# Altium schematic symbol library linear.SCHLIB: 655 symbols (part 3 of 4)
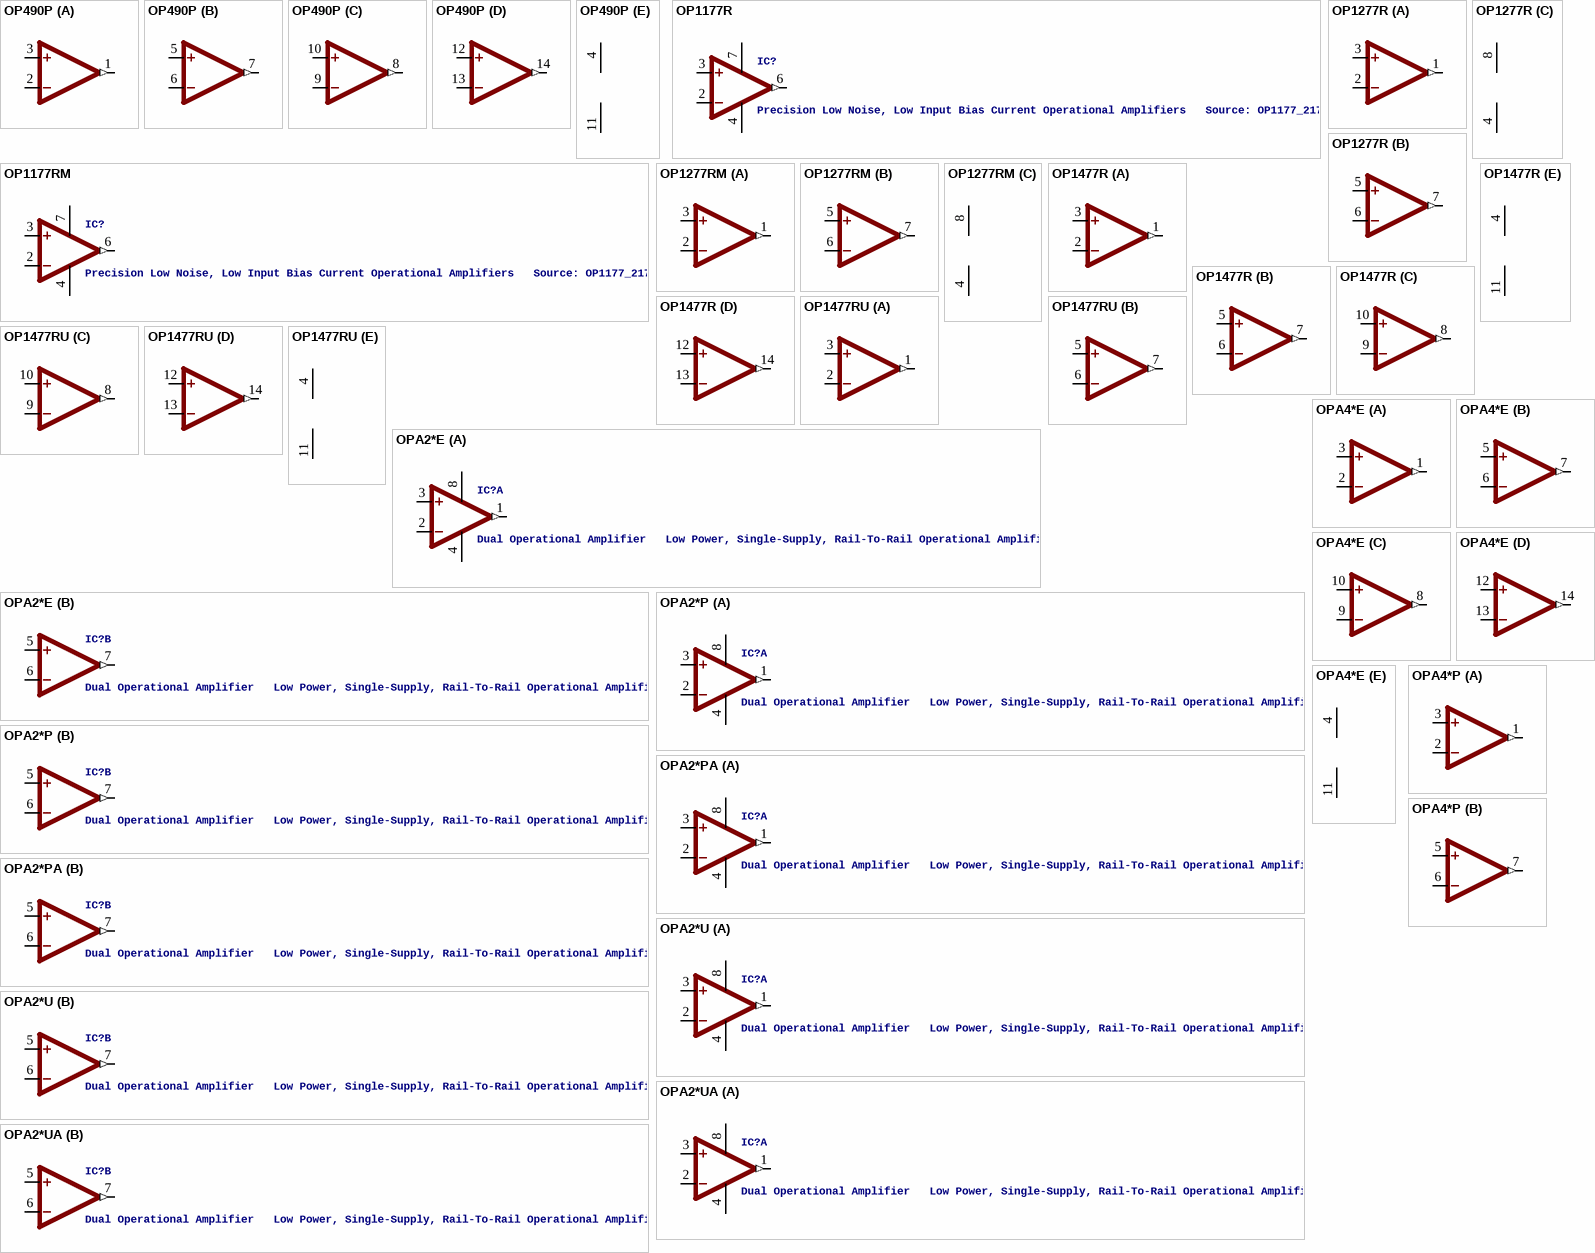
[diagram p40: symbols OP490P to OPA4*P]

## OP1177RM
designator IC?, comment Precision Low Noise, Low Input Bias Current Operational Amplifiers   Source: OP1177_2177_4177.pdf
footprint MSOP08
pins: 2 -IN, 3 +IN, 4 V- (power), 6 OUT (out), 7 V+ (power)

## OP1277R
designator IC?, comment Precision Low Noise, Low Input Bias Current Operational Amplifiers   Source: OP1177_2177_4177.pdf  (value not drawn)
footprint SOIC8
part A pins: 1 OUT (out), 2 -IN, 3 +IN
part B pins: 5 +IN, 6 -IN, 7 OUT (out)
part C pins: 4 V- (power), 8 V+ (power)

## OP1277RM
designator IC?, comment Precision Low Noise, Low Input Bias Current Operational Amplifiers   Source: OP1177_2177_4177.pdf  (value not drawn)
footprint MSOP08
part A pins: 1 OUT (out), 2 -IN, 3 +IN
part B pins: 5 +IN, 6 -IN, 7 OUT (out)
part C pins: 4 V- (power), 8 V+ (power)

## OP1477R
designator IC?, comment Precision Low Noise, Low Input Bias Current Operational Amplifiers   Source: OP1177_2177_4177.pdf  (value not drawn)
footprint SO14
part A pins: 1 OUT (out), 2 -IN, 3 +IN
part B pins: 5 +IN, 6 -IN, 7 OUT (out)
part C pins: 8 OUT (out), 9 -IN, 10 +IN
part D pins: 12 +IN, 13 -IN, 14 OUT (out)
part E pins: 4 V+ (power), 11 V- (power)

## OP1477RU
designator IC?, comment Precision Low Noise, Low Input Bias Current Operational Amplifiers   Source: OP1177_2177_4177.pdf  (value not drawn)
footprint TSSOP14-RU
part A pins: 1 OUT (out), 2 -IN, 3 +IN
part B pins: 5 +IN, 6 -IN, 7 OUT (out)
part C pins: 8 OUT (out), 9 -IN, 10 +IN
part D pins: 12 +IN, 13 -IN, 14 OUT (out)
part E pins: 4 V+ (power), 11 V- (power)

## OPA2*E
designator IC?, comment Dual Operational Amplifier   Low Power, Single-Supply, Rail-To-Rail Operational Amplifier Source: http://focus.ti.com/lit/ds/symlink/opa2345.pdf http://focus.ti.com .. opa241.pdf http://focus.ti.com/lit/ds/symlink/opa2134.pdf
footprint MSOP08
part A pins: 1 OUT (out), 2 -IN, 3 +IN, 4 V- (power), 8 V+ (power)
part B pins: 5 +IN, 6 -IN, 7 OUT (out)

## OPA2*P
designator IC?, comment Dual Operational Amplifier   Low Power, Single-Supply, Rail-To-Rail Operational Amplifier Source: http://focus.ti.com/lit/ds/symlink/opa2345.pdf http://focus.ti.com .. opa241.pdf http://focus.ti.com/lit/ds/symlink/opa2134.pdf
footprint DIL08
part A pins: 1 OUT (out), 2 -IN, 3 +IN, 4 V- (power), 8 V+ (power)
part B pins: 5 +IN, 6 -IN, 7 OUT (out)

## OPA2*PA
designator IC?, comment Dual Operational Amplifier   Low Power, Single-Supply, Rail-To-Rail Operational Amplifier Source: http://focus.ti.com/lit/ds/symlink/opa2345.pdf http://focus.ti.com .. opa241.pdf http://focus.ti.com/lit/ds/symlink/opa2134.pdf
footprint DIL08
part A pins: 1 OUT (out), 2 -IN, 3 +IN, 4 V- (power), 8 V+ (power)
part B pins: 5 +IN, 6 -IN, 7 OUT (out)

## OPA2*U
designator IC?, comment Dual Operational Amplifier   Low Power, Single-Supply, Rail-To-Rail Operational Amplifier Source: http://focus.ti.com/lit/ds/symlink/opa2345.pdf http://focus.ti.com .. opa241.pdf http://focus.ti.com/lit/ds/symlink/opa2134.pdf
footprint SO08
part A pins: 1 OUT (out), 2 -IN, 3 +IN, 4 V- (power), 8 V+ (power)
part B pins: 5 +IN, 6 -IN, 7 OUT (out)

## OPA2*UA
designator IC?, comment Dual Operational Amplifier   Low Power, Single-Supply, Rail-To-Rail Operational Amplifier Source: http://focus.ti.com/lit/ds/symlink/opa2345.pdf http://focus.ti.com .. opa241.pdf http://focus.ti.com/lit/ds/symlink/opa2134.pdf
footprint SO08
part A pins: 1 OUT (out), 2 -IN, 3 +IN, 4 V- (power), 8 V+ (power)
part B pins: 5 +IN, 6 -IN, 7 OUT (out)

## OPA4*E
designator IC?, comment Quad Operational Amplifier   compatible with: TLC27L4   Low Power, Single-Supply, Rail-To-Rail Operational Amplifier Source: http://focus.ti.com/lit/ds/symlink/opa2345.pdf http://focus.ti.com .. opa241.pdf http://focus.ti.com .. tlc27l4.pdf http://focus.ti.com/lit/ds/symlink/opa2134.pdf  (value not drawn)
footprint TSSOP14
part A pins: 1 OUT (out), 2 -IN, 3 +IN
part B pins: 5 +IN, 6 -IN, 7 OUT (out)
part C pins: 8 OUT (out), 9 -IN, 10 +IN
part D pins: 12 +IN, 13 -IN, 14 OUT (out)
part E pins: 4 V+ (power), 11 V- (power)

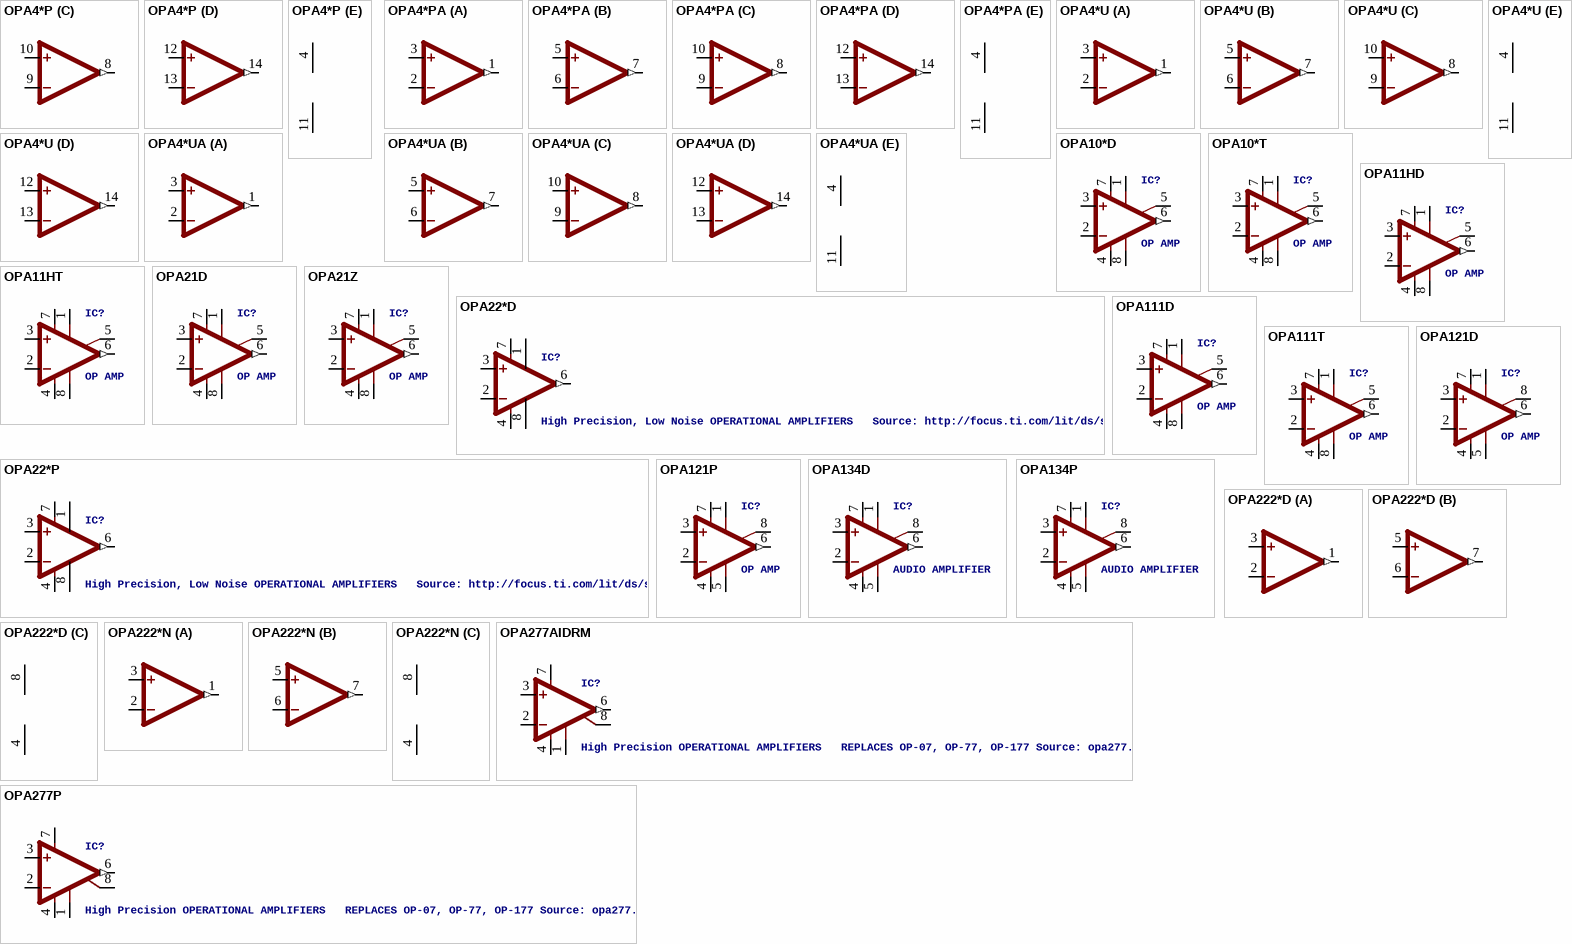
[diagram p27: symbols OPA4*P to OPA277P]

## OPA4*P
designator IC?, comment Quad Operational Amplifier   compatible with: TLC27L4   Low Power, Single-Supply, Rail-To-Rail Operational Amplifier Source: http://focus.ti.com/lit/ds/symlink/opa2345.pdf http://focus.ti.com .. opa241.pdf http://focus.ti.com .. tlc27l4.pdf http://focus.ti.com/lit/ds/symlink/opa2134.pdf  (value not drawn)
footprint DIL14
part A pins: 1 OUT (out), 2 -IN, 3 +IN
part B pins: 5 +IN, 6 -IN, 7 OUT (out)
part C pins: 8 OUT (out), 9 -IN, 10 +IN
part D pins: 12 +IN, 13 -IN, 14 OUT (out)
part E pins: 4 V+ (power), 11 V- (power)

## OPA4*PA
designator IC?, comment Quad Operational Amplifier   compatible with: TLC27L4   Low Power, Single-Supply, Rail-To-Rail Operational Amplifier Source: http://focus.ti.com/lit/ds/symlink/opa2345.pdf http://focus.ti.com .. opa241.pdf http://focus.ti.com .. tlc27l4.pdf http://focus.ti.com/lit/ds/symlink/opa2134.pdf  (value not drawn)
footprint DIL14
part A pins: 1 OUT (out), 2 -IN, 3 +IN
part B pins: 5 +IN, 6 -IN, 7 OUT (out)
part C pins: 8 OUT (out), 9 -IN, 10 +IN
part D pins: 12 +IN, 13 -IN, 14 OUT (out)
part E pins: 4 V+ (power), 11 V- (power)

## OPA4*U
designator IC?, comment Quad Operational Amplifier   compatible with: TLC27L4   Low Power, Single-Supply, Rail-To-Rail Operational Amplifier Source: http://focus.ti.com/lit/ds/symlink/opa2345.pdf http://focus.ti.com .. opa241.pdf http://focus.ti.com .. tlc27l4.pdf http://focus.ti.com/lit/ds/symlink/opa2134.pdf  (value not drawn)
footprint SO14
part A pins: 1 OUT (out), 2 -IN, 3 +IN
part B pins: 5 +IN, 6 -IN, 7 OUT (out)
part C pins: 8 OUT (out), 9 -IN, 10 +IN
part D pins: 12 +IN, 13 -IN, 14 OUT (out)
part E pins: 4 V+ (power), 11 V- (power)

## OPA4*UA
designator IC?, comment Quad Operational Amplifier   compatible with: TLC27L4   Low Power, Single-Supply, Rail-To-Rail Operational Amplifier Source: http://focus.ti.com/lit/ds/symlink/opa2345.pdf http://focus.ti.com .. opa241.pdf http://focus.ti.com .. tlc27l4.pdf http://focus.ti.com/lit/ds/symlink/opa2134.pdf  (value not drawn)
footprint SO14
part A pins: 1 OUT (out), 2 -IN, 3 +IN
part B pins: 5 +IN, 6 -IN, 7 OUT (out)
part C pins: 8 OUT (out), 9 -IN, 10 +IN
part D pins: 12 +IN, 13 -IN, 14 OUT (out)
part E pins: 4 V+ (power), 11 V- (power)

## OPA10*D
designator IC?, comment OP AMP
footprint SO08
pins: 1 ON1, 2 -IN, 3 +IN, 4 V- (power), 5 ON2, 6 OUT (out), 7 V+ (power), 8 OPT

## OPA10*T
designator IC?, comment OP AMP
footprint TO99
pins: 1 ON1, 2 -IN, 3 +IN, 4 V- (power), 5 ON2, 6 OUT (out), 7 V+ (power), 8 OPT

## OPA11HD
designator IC?, comment OP AMP
footprint SO08
pins: 1 ON1, 2 -IN, 3 +IN, 4 V- (power), 5 ON2, 6 OUT (out), 7 V+ (power), 8 OPT

## OPA11HT
designator IC?, comment OP AMP
footprint TO99
pins: 1 ON1, 2 -IN, 3 +IN, 4 V- (power), 5 ON2, 6 OUT (out), 7 V+ (power), 8 OPT

## OPA21D
designator IC?, comment OP AMP
footprint SO08
pins: 1 ON1, 2 -IN, 3 +IN, 4 V- (power), 5 ON2, 6 OUT (out), 7 V+ (power), 8 OPT

## OPA21Z
designator IC?, comment OP AMP
footprint DIL08
pins: 1 ON1, 2 -IN, 3 +IN, 4 V- (power), 5 ON2, 6 OUT (out), 7 V+ (power), 8 OPT

## OPA22*D
designator IC?, comment High Precision, Low Noise OPERATIONAL AMPLIFIERS   Source: http://focus.ti.com/lit/ds/symlink/opa227.pdf
footprint SO08
pins: 1 OFF1, 2 -IN, 3 +IN, 4 V- (power), 6 OUT (out), 7 V+ (power), 8 OFF2

## OPA22*P
designator IC?, comment High Precision, Low Noise OPERATIONAL AMPLIFIERS   Source: http://focus.ti.com/lit/ds/symlink/opa227.pdf
footprint DIL08
pins: 1 OFF1, 2 -IN, 3 +IN, 4 V- (power), 6 OUT (out), 7 V+ (power), 8 OFF2

## OPA111D
designator IC?, comment OP AMP
footprint SO08
pins: 1 ON1, 2 -IN, 3 +IN, 4 V- (power), 5 ON2, 6 OUT (out), 7 V+ (power), 8 OPT

## OPA111T
designator IC?, comment OP AMP
footprint TO99
pins: 1 ON1, 2 -IN, 3 +IN, 4 V- (power), 5 ON2, 6 OUT (out), 7 V+ (power), 8 OPT

## OPA121D
designator IC?, comment OP AMP
footprint SO08
pins: 1 ON1, 2 -IN, 3 +IN, 4 V- (power), 5 OPT, 6 OUT (out), 7 V+ (power), 8 ON2

## OPA121P
designator IC?, comment OP AMP
footprint DIL08
pins: 1 ON1, 2 -IN, 3 +IN, 4 V- (power), 5 OPT, 6 OUT (out), 7 V+ (power), 8 ON2

## OPA134D
designator IC?, comment AUDIO AMPLIFIER
footprint SO08
pins: 1 ON1, 2 -IN, 3 +IN, 4 V- (power), 5 OPT, 6 OUT (out), 7 V+ (power), 8 ON2

## OPA134P
designator IC?, comment AUDIO AMPLIFIER
footprint DIL08
pins: 1 ON1, 2 -IN, 3 +IN, 4 V- (power), 5 OPT, 6 OUT (out), 7 V+ (power), 8 ON2

## OPA222*D
designator IC?, comment High Precision, Low Noise OPERATIONAL AMPLIFIERS   Source: http://focus.ti.com/lit/ds/symlink/opa227.pdf  (value not drawn)
footprint SO08
part A pins: 1 OUT (out), 2 -IN, 3 +IN
part B pins: 5 +IN, 6 -IN, 7 OUT (out)
part C pins: 4 V- (power), 8 V+ (power)

## OPA222*N
designator IC?, comment High Precision, Low Noise OPERATIONAL AMPLIFIERS   Source: http://focus.ti.com/lit/ds/symlink/opa227.pdf  (value not drawn)
footprint DIL08
part A pins: 1 OUT (out), 2 -IN, 3 +IN
part B pins: 5 +IN, 6 -IN, 7 OUT (out)
part C pins: 4 V- (power), 8 V+ (power)

## OPA277AIDRM
designator IC?, comment High Precision OPERATIONAL AMPLIFIERS   REPLACES OP-07, OP-77, OP-177 Source: opa277.pdf
footprint DFN8-4X4
pins: 1 CMP1, 2 -IN, 3 +IN, 4 V- (power), 6 OUT (out), 7 V+ (power), 8 CMP2

## OPA277P
designator IC?, comment High Precision OPERATIONAL AMPLIFIERS   REPLACES OP-07, OP-77, OP-177 Source: opa277.pdf
footprint DIL08
pins: 1 CMP1, 2 -IN, 3 +IN, 4 V- (power), 6 OUT (out), 7 V+ (power), 8 CMP2

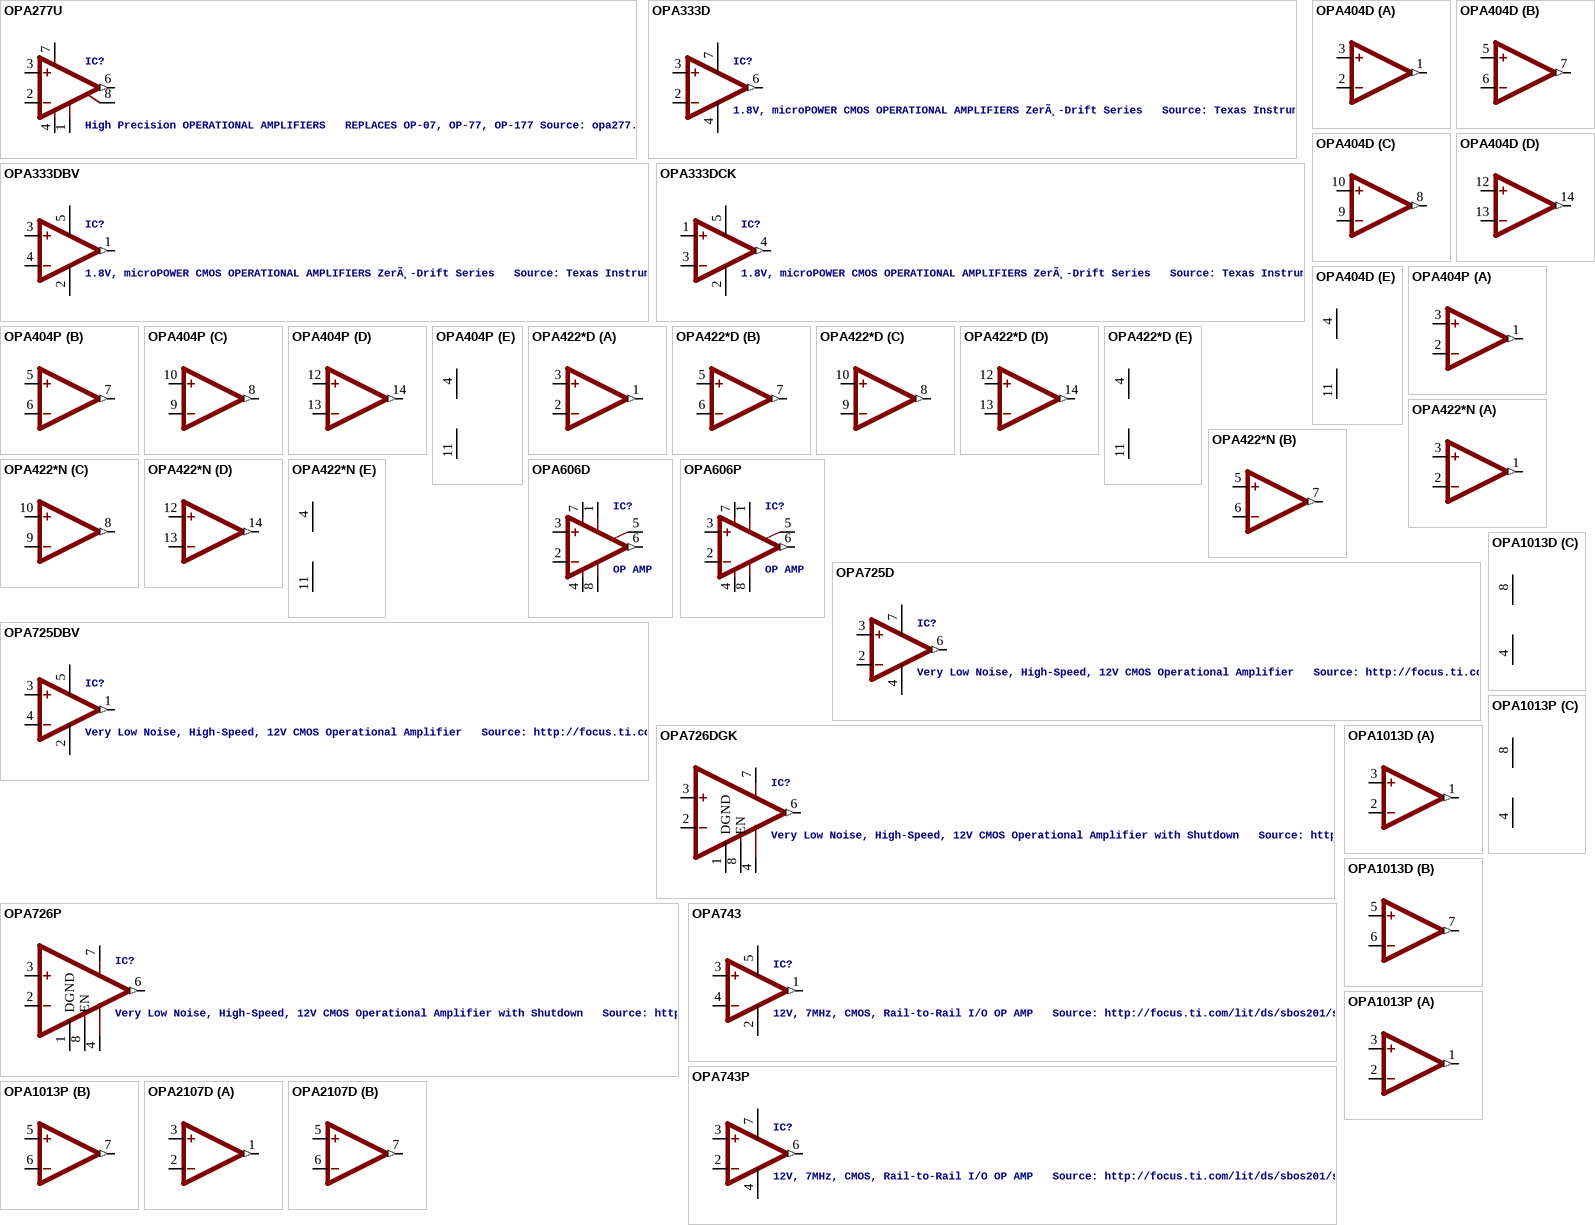
[diagram p28: symbols OPA277U to OPA2107D]

## OPA277U
designator IC?, comment High Precision OPERATIONAL AMPLIFIERS   REPLACES OP-07, OP-77, OP-177 Source: opa277.pdf
footprint SO08
pins: 1 CMP1, 2 -IN, 3 +IN, 4 V- (power), 6 OUT (out), 7 V+ (power), 8 CMP2

## OPA333D
designator IC?, comment 1.8V, microPOWER CMOS OPERATIONAL AMPLIFIERS ZerÃ¸-Drift Series   Source: Texas Instruments (Burr-Brown) .. U11 opa333 Operational Amp.pdf
footprint SO08
pins: 2 -IN, 3 +IN, 4 V- (power), 6 OUT (out), 7 V+ (power)

## OPA333DBV
designator IC?, comment 1.8V, microPOWER CMOS OPERATIONAL AMPLIFIERS ZerÃ¸-Drift Series   Source: Texas Instruments (Burr-Brown) .. U11 opa333 Operational Amp.pdf
footprint SOT23-5
pins: 1 OUT (out), 2 V- (power), 3 +IN, 4 -IN, 5 V+ (power)

## OPA333DCK
designator IC?, comment 1.8V, microPOWER CMOS OPERATIONAL AMPLIFIERS ZerÃ¸-Drift Series   Source: Texas Instruments (Burr-Brown) .. U11 opa333 Operational Amp.pdf
footprint SC70-5L
pins: 1 +IN, 2 V- (power), 3 -IN, 4 OUT (out), 5 V+ (power)

## OPA404D
designator IC?, comment OP AMP  (value not drawn)
footprint SO14
part A pins: 1 OUT (out), 2 -IN, 3 +IN
part B pins: 5 +IN, 6 -IN, 7 OUT (out)
part C pins: 8 OUT (out), 9 -IN, 10 +IN
part D pins: 12 +IN, 13 -IN, 14 OUT (out)
part E pins: 4 V+ (power), 11 V- (power)

## OPA404P
designator IC?, comment OP AMP  (value not drawn)
footprint DIL14
part A pins: 1 OUT (out), 2 -IN, 3 +IN
part B pins: 5 +IN, 6 -IN, 7 OUT (out)
part C pins: 8 OUT (out), 9 -IN, 10 +IN
part D pins: 12 +IN, 13 -IN, 14 OUT (out)
part E pins: 4 V+ (power), 11 V- (power)

## OPA422*D
designator IC?, comment High Precision, Low Noise OPERATIONAL AMPLIFIERS   Source: http://focus.ti.com/lit/ds/symlink/opa227.pdf  (value not drawn)
footprint SO14
part A pins: 1 OUT (out), 2 -IN, 3 +IN
part B pins: 5 +IN, 6 -IN, 7 OUT (out)
part C pins: 8 OUT (out), 9 -IN, 10 +IN
part D pins: 12 +IN, 13 -IN, 14 OUT (out)
part E pins: 4 V+ (power), 11 V- (power)

## OPA422*N
designator IC?, comment High Precision, Low Noise OPERATIONAL AMPLIFIERS   Source: http://focus.ti.com/lit/ds/symlink/opa227.pdf  (value not drawn)
footprint DIL14
part A pins: 1 OUT (out), 2 -IN, 3 +IN
part B pins: 5 +IN, 6 -IN, 7 OUT (out)
part C pins: 8 OUT (out), 9 -IN, 10 +IN
part D pins: 12 +IN, 13 -IN, 14 OUT (out)
part E pins: 4 V+ (power), 11 V- (power)

## OPA606D
designator IC?, comment OP AMP
footprint SO08
pins: 1 ON1, 2 -IN, 3 +IN, 4 V- (power), 5 ON2, 6 OUT (out), 7 V+ (power), 8 OPT

## OPA606P
designator IC?, comment OP AMP
footprint DIL08
pins: 1 ON1, 2 -IN, 3 +IN, 4 V- (power), 5 ON2, 6 OUT (out), 7 V+ (power), 8 OPT

## OPA725D
designator IC?, comment Very Low Noise, High-Speed, 12V CMOS Operational Amplifier   Source: http://focus.ti.com/lit/ds/symlink/opa725.pdf
footprint SO08
pins: 2 -IN, 3 +IN, 4 V- (power), 6 OUT (out), 7 V+ (power)

## OPA725DBV
designator IC?, comment Very Low Noise, High-Speed, 12V CMOS Operational Amplifier   Source: http://focus.ti.com/lit/ds/symlink/opa725.pdf
footprint SOT23-5
pins: 1 OUT (out), 2 V- (power), 3 +IN, 4 -IN, 5 V+ (power)

## OPA726DGK
designator IC?, comment Very Low Noise, High-Speed, 12V CMOS Operational Amplifier with Shutdown   Source: http://focus.ti.com/lit/ds/symlink/opa725.pdf
footprint MSOP08
pins: 1 DGND, 2 -IN, 3 +IN, 4 V- (power), 6 OUT (out), 7 V+ (power), 8 EN

## OPA726P
designator IC?, comment Very Low Noise, High-Speed, 12V CMOS Operational Amplifier with Shutdown   Source: http://focus.ti.com/lit/ds/symlink/opa725.pdf
footprint DIL08
pins: 1 DGND, 2 -IN, 3 +IN, 4 V- (power), 6 OUT (out), 7 V+ (power), 8 EN

## OPA743
designator IC?, comment 12V, 7MHz, CMOS, Rail-to-Rail I/O OP AMP   Source: http://focus.ti.com/lit/ds/sbos201/sbos201.pdf
footprint SOT23-5
pins: 1 OUT (out), 2 V- (power), 3 +IN, 4 -IN, 5 V+ (power)

## OPA743P
designator IC?, comment 12V, 7MHz, CMOS, Rail-to-Rail I/O OP AMP   Source: http://focus.ti.com/lit/ds/sbos201/sbos201.pdf
footprint DIL08
pins: 2 -IN, 3 +IN, 4 V- (power), 6 OUT (out), 7 V+ (power)

## OPA1013D
designator IC?, comment OP AMP  (value not drawn)
footprint SO08
part A pins: 1 OUT (out), 2 -IN, 3 +IN
part B pins: 5 +IN, 6 -IN, 7 OUT (out)
part C pins: 4 V- (power), 8 V+ (power)

## OPA1013P
designator IC?, comment OP AMP  (value not drawn)
footprint DIL08
part A pins: 1 OUT (out), 2 -IN, 3 +IN
part B pins: 5 +IN, 6 -IN, 7 OUT (out)
part C pins: 4 V- (power), 8 V+ (power)

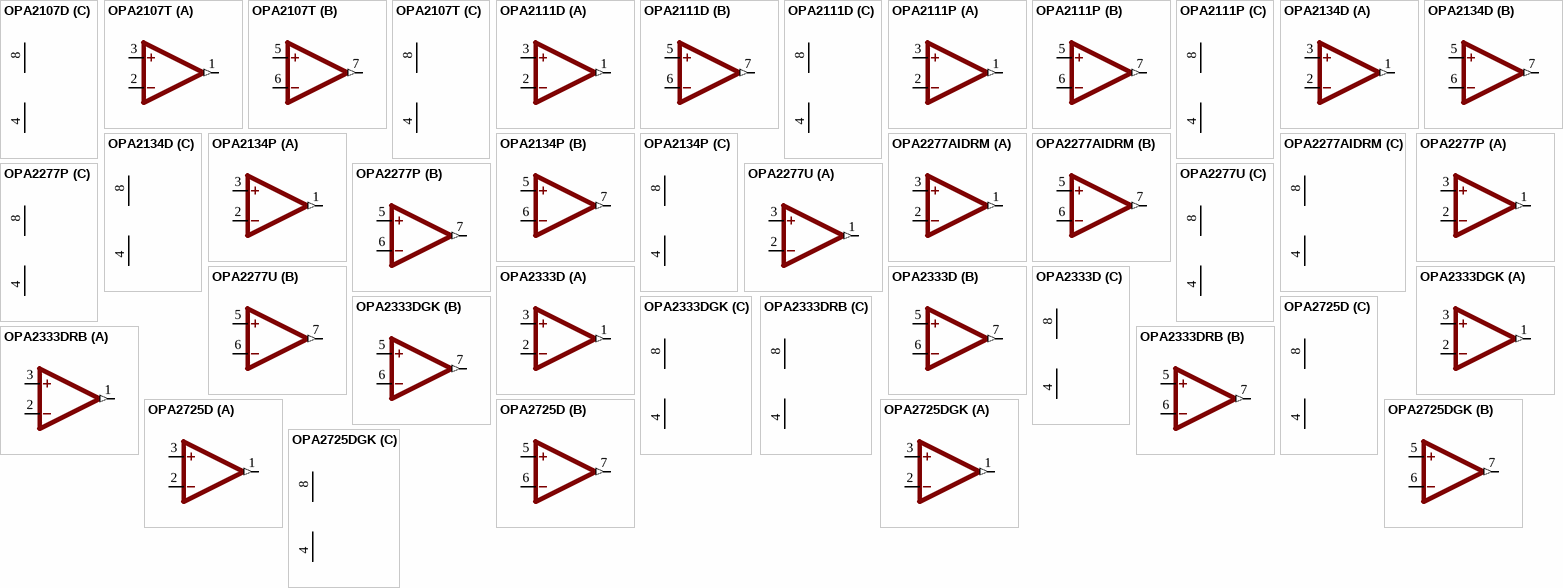
[diagram p29: symbols OPA2107D to OPA2725DGK]

## OPA2107D
designator IC?, comment OP AMP  (value not drawn)
footprint SO08
part A pins: 1 OUT (out), 2 -IN, 3 +IN
part B pins: 5 +IN, 6 -IN, 7 OUT (out)
part C pins: 4 V- (power), 8 V+ (power)

## OPA2107T
designator IC?, comment OP AMP  (value not drawn)
footprint TO99
part A pins: 1 OUT (out), 2 -IN, 3 +IN
part B pins: 5 +IN, 6 -IN, 7 OUT (out)
part C pins: 4 V- (power), 8 V+ (power)

## OPA2111D
designator IC?, comment OP AMP  (value not drawn)
footprint SO08
part A pins: 1 OUT (out), 2 -IN, 3 +IN
part B pins: 5 +IN, 6 -IN, 7 OUT (out)
part C pins: 4 V- (power), 8 V+ (power)

## OPA2111P
designator IC?, comment OP AMP  (value not drawn)
footprint DIL08
part A pins: 1 OUT (out), 2 -IN, 3 +IN
part B pins: 5 +IN, 6 -IN, 7 OUT (out)
part C pins: 4 V- (power), 8 V+ (power)

## OPA2134D
designator IC?, comment SoundPLUS (TM) High Performance AUDIO OPERATIONAL AMPLIFIERS   Source: http://focus.ti.com/lit/ds/sbos058/sbos058.pdf  (value not drawn)
footprint SOIC8
part A pins: 1 OUT (out), 2 -IN, 3 +IN
part B pins: 5 +IN, 6 -IN, 7 OUT (out)
part C pins: 4 V- (power), 8 V+ (power)

## OPA2134P
designator IC?, comment SoundPLUS (TM) High Performance AUDIO OPERATIONAL AMPLIFIERS   Source: http://focus.ti.com/lit/ds/sbos058/sbos058.pdf  (value not drawn)
footprint DIL08
part A pins: 1 OUT (out), 2 -IN, 3 +IN
part B pins: 5 +IN, 6 -IN, 7 OUT (out)
part C pins: 4 V- (power), 8 V+ (power)

## OPA2277AIDRM
designator IC?, comment High Precision OPERATIONAL AMPLIFIERS   REPLACES OP-07, OP-77, OP-177 Source: opa277.pdf  (value not drawn)
footprint DFN8-4X4
part A pins: 1 OUT (out), 2 -IN, 3 +IN
part B pins: 5 +IN, 6 -IN, 7 OUT (out)
part C pins: 4 V- (power), 8 V+ (power)

## OPA2277P
designator IC?, comment High Precision OPERATIONAL AMPLIFIERS   REPLACES OP-07, OP-77, OP-177 Source: opa277.pdf  (value not drawn)
footprint DIL08
part A pins: 1 OUT (out), 2 -IN, 3 +IN
part B pins: 5 +IN, 6 -IN, 7 OUT (out)
part C pins: 4 V- (power), 8 V+ (power)

## OPA2277U
designator IC?, comment High Precision OPERATIONAL AMPLIFIERS   REPLACES OP-07, OP-77, OP-177 Source: opa277.pdf  (value not drawn)
footprint SO08
part A pins: 1 OUT (out), 2 -IN, 3 +IN
part B pins: 5 +IN, 6 -IN, 7 OUT (out)
part C pins: 4 V- (power), 8 V+ (power)

## OPA2333D
designator IC?, comment DUAL 1.8V, microPOWER CMOS OPERATIONAL AMPLIFIERS ZerÃ¸-Drift Series   Source: Texas Instruments (Burr-Brown) .. U11 opa333 Operational Amp.pdf  (value not drawn)
footprint SO08
part A pins: 1 OUT (out), 2 -IN, 3 +IN
part B pins: 5 +IN, 6 -IN, 7 OUT (out)
part C pins: 4 V- (power), 8 V+ (power)

## OPA2333DGK
designator IC?, comment DUAL 1.8V, microPOWER CMOS OPERATIONAL AMPLIFIERS ZerÃ¸-Drift Series   Source: Texas Instruments (Burr-Brown) .. U11 opa333 Operational Amp.pdf  (value not drawn)
footprint MSOP08
part A pins: 1 OUT (out), 2 -IN, 3 +IN
part B pins: 5 +IN, 6 -IN, 7 OUT (out)
part C pins: 4 V- (power), 8 V+ (power)

## OPA2333DRB
designator IC?, comment DUAL 1.8V, microPOWER CMOS OPERATIONAL AMPLIFIERS ZerÃ¸-Drift Series   Source: Texas Instruments (Burr-Brown) .. U11 opa333 Operational Amp.pdf  (value not drawn)
footprint DFN8-4X4
part A pins: 1 OUT (out), 2 -IN, 3 +IN
part B pins: 5 +IN, 6 -IN, 7 OUT (out)
part C pins: 4 V- (power), 8 V+ (power)

## OPA2725D
designator IC?, comment Very Low Noise, High-Speed, 12V CMOS Operational Amplifier   Source: http://focus.ti.com/lit/ds/symlink/opa725.pdf  (value not drawn)
footprint SO08
part A pins: 1 OUT (out), 2 -IN, 3 +IN
part B pins: 5 +IN, 6 -IN, 7 OUT (out)
part C pins: 4 V- (power), 8 V+ (power)

## OPA2725DGK
designator IC?, comment Very Low Noise, High-Speed, 12V CMOS Operational Amplifier   Source: http://focus.ti.com/lit/ds/symlink/opa725.pdf  (value not drawn)
footprint MSOP08
part A pins: 1 OUT (out), 2 -IN, 3 +IN
part B pins: 5 +IN, 6 -IN, 7 OUT (out)
part C pins: 4 V- (power), 8 V+ (power)

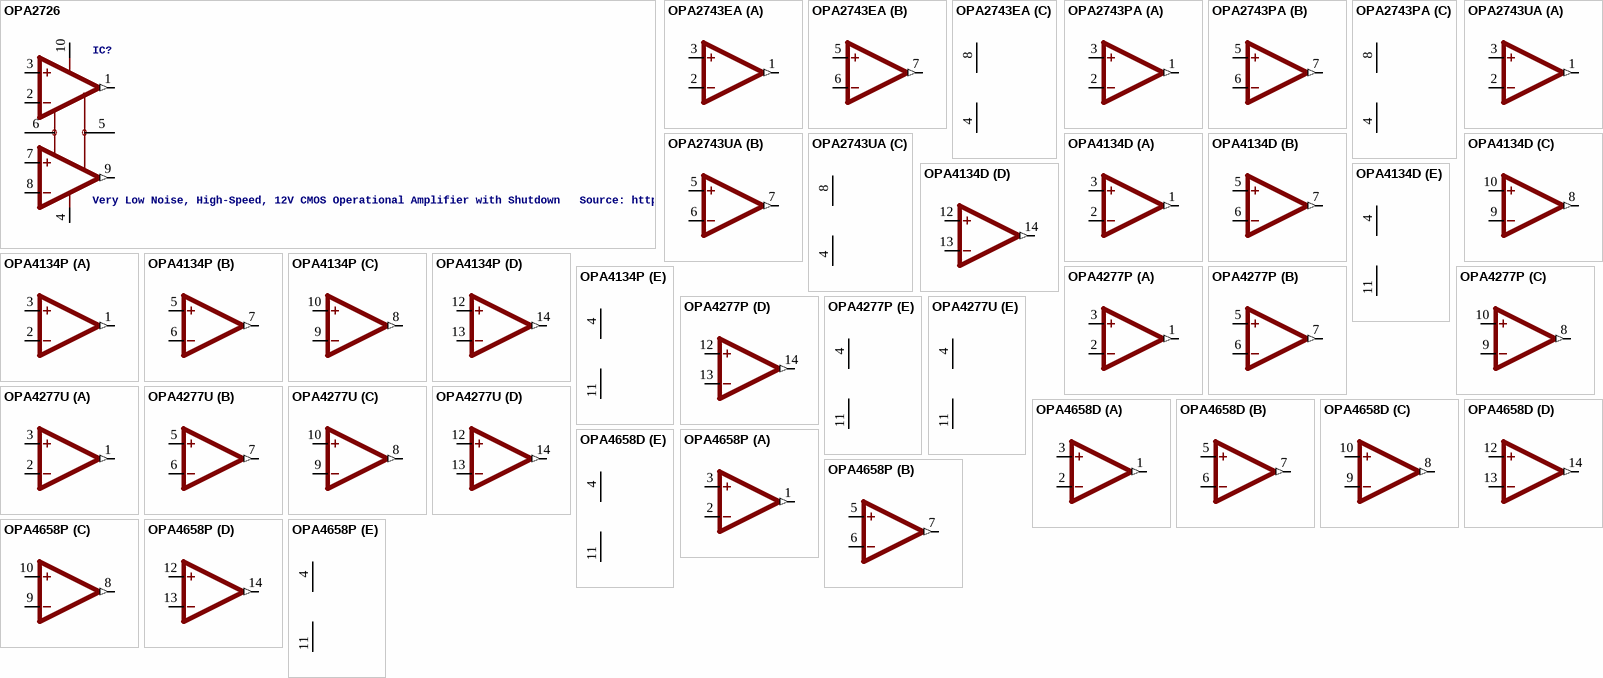
[diagram p30: symbols OPA2726 to OPA4658P]

## OPA2726
designator IC?, comment Very Low Noise, High-Speed, 12V CMOS Operational Amplifier with Shutdown   Source: http://focus.ti.com/lit/ds/symlink/opa725.pdf
footprint MSOP10
pins: 1 OUTA (out), 2 -INA, 3 +INA, 4 V- (power), 5 DGND, 6 EN, 7 +INB, 8 -INB, 9 OUTB (out), 10 V+ (power)

## OPA2743EA
designator IC?, comment 12V, 7MHz, CMOS, Rail-to-Rail I/O Dual OP AMP   Source: http://focus.ti.com/lit/ds/sbos201/sbos201.pdf  (value not drawn)
footprint MSOP08
part A pins: 1 OUT (out), 2 -IN, 3 +IN
part B pins: 5 +IN, 6 -IN, 7 OUT (out)
part C pins: 4 V- (power), 8 V+ (power)

## OPA2743PA
designator IC?, comment 12V, 7MHz, CMOS, Rail-to-Rail I/O Dual OP AMP   Source: http://focus.ti.com/lit/ds/sbos201/sbos201.pdf  (value not drawn)
footprint DIL08
part A pins: 1 OUT (out), 2 -IN, 3 +IN
part B pins: 5 +IN, 6 -IN, 7 OUT (out)
part C pins: 4 V- (power), 8 V+ (power)

## OPA2743UA
designator IC?, comment 12V, 7MHz, CMOS, Rail-to-Rail I/O Dual OP AMP   Source: http://focus.ti.com/lit/ds/sbos201/sbos201.pdf  (value not drawn)
footprint SOIC8
part A pins: 1 OUT (out), 2 -IN, 3 +IN
part B pins: 5 +IN, 6 -IN, 7 OUT (out)
part C pins: 4 V- (power), 8 V+ (power)

## OPA4134D
designator IC?, comment SoundPLUS (TM) High Performance AUDIO OPERATIONAL AMPLIFIERS   Source: http://focus.ti.com/lit/ds/sbos058/sbos058.pdf  (value not drawn)
footprint SO14
part A pins: 1 OUT (out), 2 -IN, 3 +IN
part B pins: 5 +IN, 6 -IN, 7 OUT (out)
part C pins: 8 OUT (out), 9 -IN, 10 +IN
part D pins: 12 +IN, 13 -IN, 14 OUT (out)
part E pins: 4 V+ (power), 11 V- (power)

## OPA4134P
designator IC?, comment SoundPLUS (TM) High Performance AUDIO OPERATIONAL AMPLIFIERS   Source: http://focus.ti.com/lit/ds/sbos058/sbos058.pdf  (value not drawn)
footprint DIL14
part A pins: 1 OUT (out), 2 -IN, 3 +IN
part B pins: 5 +IN, 6 -IN, 7 OUT (out)
part C pins: 8 OUT (out), 9 -IN, 10 +IN
part D pins: 12 +IN, 13 -IN, 14 OUT (out)
part E pins: 4 V+ (power), 11 V- (power)

## OPA4277P
designator IC?, comment High Precision OPERATIONAL AMPLIFIERS   REPLACES OP-07, OP-77, OP-177 Source: opa277.pdf  (value not drawn)
footprint DIL14
part A pins: 1 OUT (out), 2 -IN, 3 +IN
part B pins: 5 +IN, 6 -IN, 7 OUT (out)
part C pins: 8 OUT (out), 9 -IN, 10 +IN
part D pins: 12 +IN, 13 -IN, 14 OUT (out)
part E pins: 4 V+ (power), 11 V- (power)

## OPA4277U
designator IC?, comment High Precision OPERATIONAL AMPLIFIERS   REPLACES OP-07, OP-77, OP-177 Source: opa277.pdf  (value not drawn)
footprint SO14
part A pins: 1 OUT (out), 2 -IN, 3 +IN
part B pins: 5 +IN, 6 -IN, 7 OUT (out)
part C pins: 8 OUT (out), 9 -IN, 10 +IN
part D pins: 12 +IN, 13 -IN, 14 OUT (out)
part E pins: 4 V+ (power), 11 V- (power)

## OPA4658D
designator IC?, comment Quad Wideband, Low Power Current Feedback OP AMP  (value not drawn)
footprint SO14
part A pins: 1 OUT (out), 2 -IN, 3 +IN
part B pins: 5 +IN, 6 -IN, 7 OUT (out)
part C pins: 8 OUT (out), 9 -IN, 10 +IN
part D pins: 12 +IN, 13 -IN, 14 OUT (out)
part E pins: 4 V+ (power), 11 V- (power)

## OPA4658P
designator IC?, comment Quad Wideband, Low Power Current Feedback OP AMP  (value not drawn)
footprint DIL14
part A pins: 1 OUT (out), 2 -IN, 3 +IN
part B pins: 5 +IN, 6 -IN, 7 OUT (out)
part C pins: 8 OUT (out), 9 -IN, 10 +IN
part D pins: 12 +IN, 13 -IN, 14 OUT (out)
part E pins: 4 V+ (power), 11 V- (power)

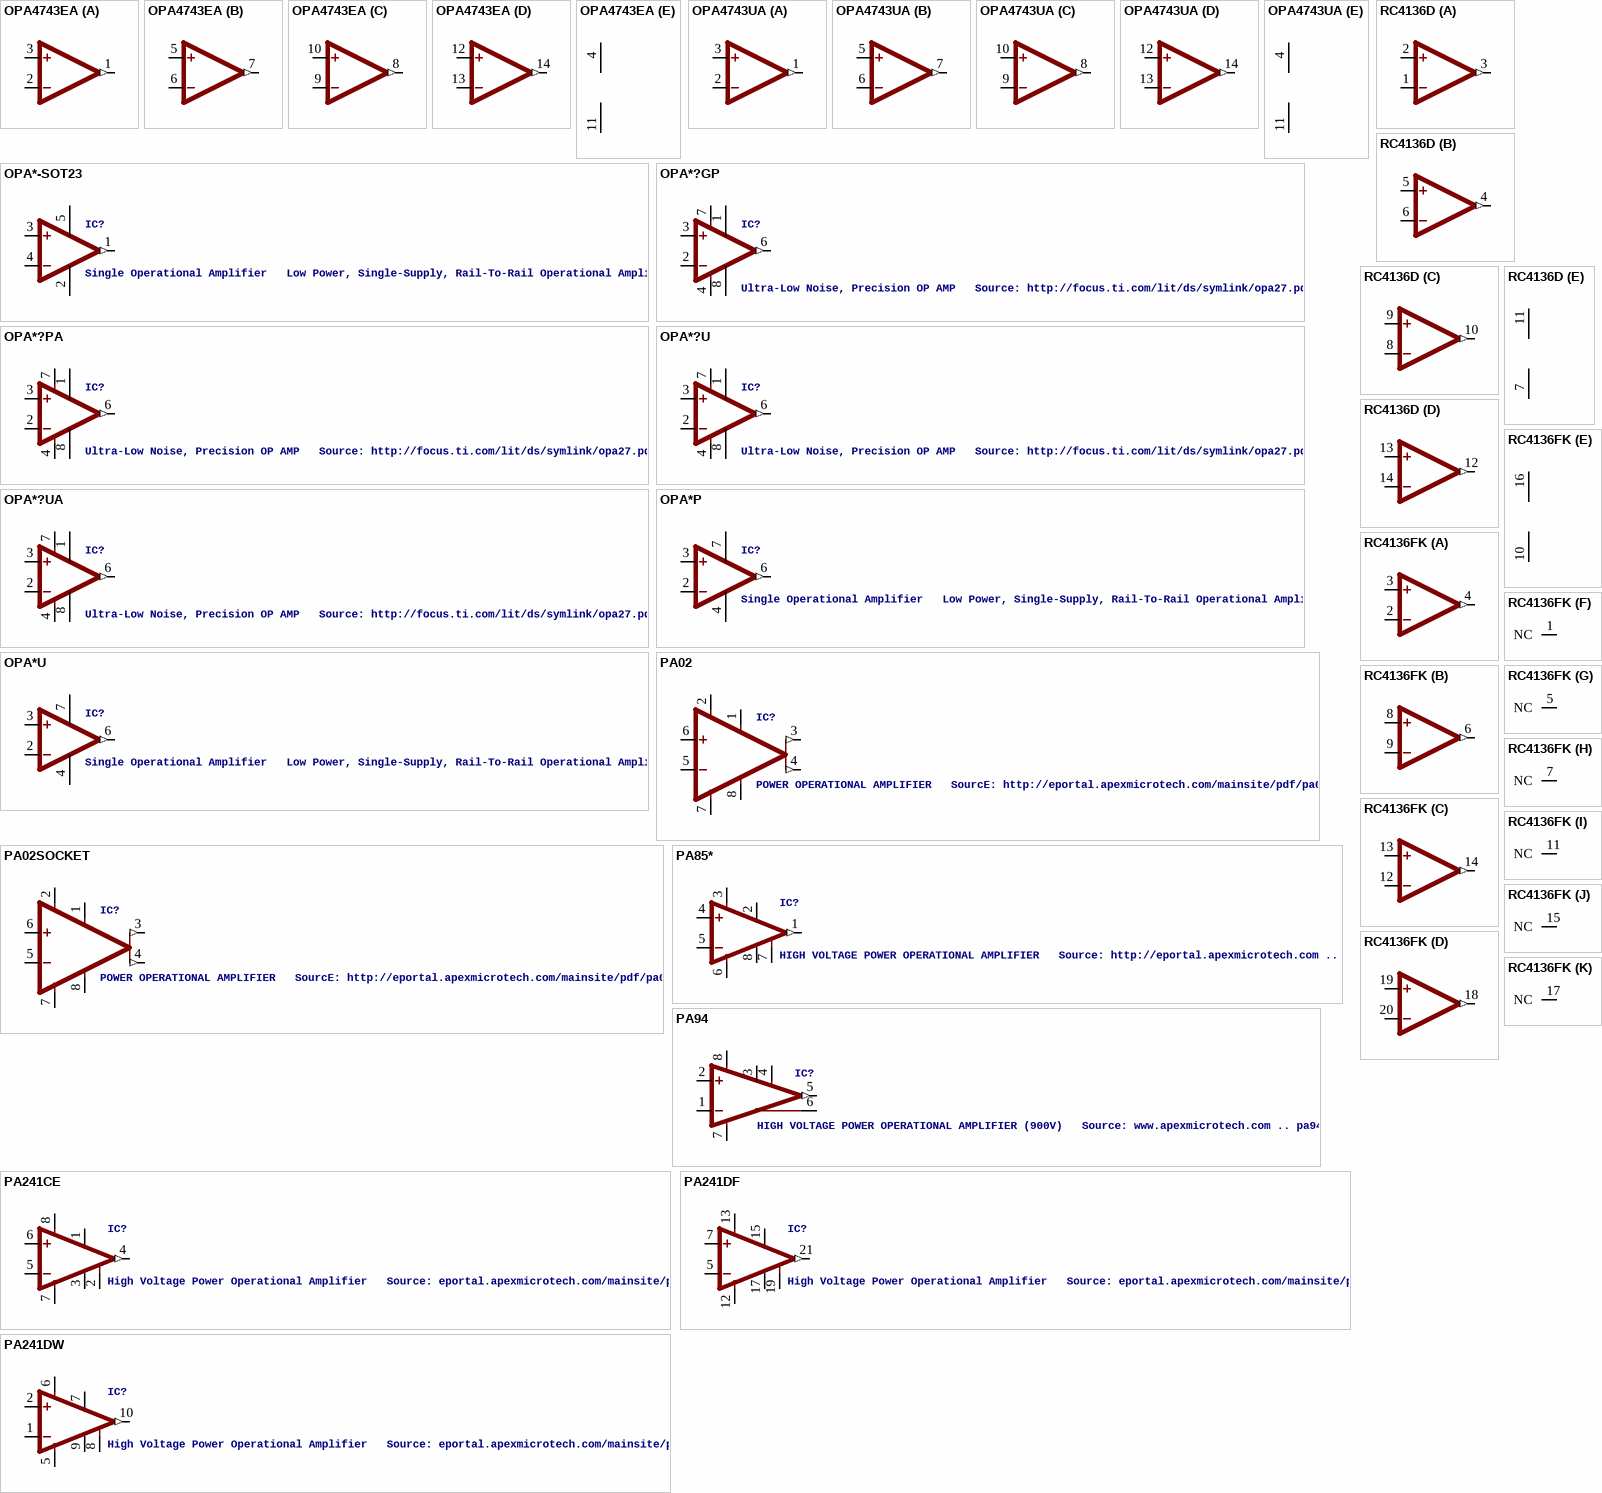
[diagram p31: symbols OPA4743EA to RC4136FK]

## OPA4743EA
designator IC?, comment 12V, 7MHz, CMOS, Rail-to-Rail I/O Quad OP AMP   Source: http://focus.ti.com/lit/ds/sbos201/sbos201.pdf  (value not drawn)
footprint TSSOP14
part A pins: 1 OUT (out), 2 -IN, 3 +IN
part B pins: 5 +IN, 6 -IN, 7 OUT (out)
part C pins: 8 OUT (out), 9 -IN, 10 +IN
part D pins: 12 +IN, 13 -IN, 14 OUT (out)
part E pins: 4 V+ (power), 11 V- (power)

## OPA4743UA
designator IC?, comment 12V, 7MHz, CMOS, Rail-to-Rail I/O Quad OP AMP   Source: http://focus.ti.com/lit/ds/sbos201/sbos201.pdf  (value not drawn)
footprint SO14
part A pins: 1 OUT (out), 2 -IN, 3 +IN
part B pins: 5 +IN, 6 -IN, 7 OUT (out)
part C pins: 8 OUT (out), 9 -IN, 10 +IN
part D pins: 12 +IN, 13 -IN, 14 OUT (out)
part E pins: 4 V+ (power), 11 V- (power)

## OPA*-SOT23
designator IC?, comment Single Operational Amplifier   Low Power, Single-Supply, Rail-To-Rail Operational Amplifier Source: http://focus.ti.com/lit/ds/symlink/opa2345.pdf
footprint SOT23-5
pins: 1 OUT (out), 2 V- (power), 3 +IN, 4 -IN, 5 V+ (power)

## OPA*?GP
designator IC?, comment Ultra-Low Noise, Precision OP AMP   Source: http://focus.ti.com/lit/ds/symlink/opa27.pdf http://focus.ti.com .. opa241.pdf
footprint DIL08
pins: 1 OFF1, 2 -IN, 3 +IN, 4 V- (power), 6 OUT (out), 7 V+ (power), 8 OFF2

## OPA*?PA
designator IC?, comment Ultra-Low Noise, Precision OP AMP   Source: http://focus.ti.com/lit/ds/symlink/opa27.pdf http://focus.ti.com .. opa241.pdf
footprint DIL08
pins: 1 OFF1, 2 -IN, 3 +IN, 4 V- (power), 6 OUT (out), 7 V+ (power), 8 OFF2

## OPA*?U
designator IC?, comment Ultra-Low Noise, Precision OP AMP   Source: http://focus.ti.com/lit/ds/symlink/opa27.pdf http://focus.ti.com .. opa241.pdf
footprint SO08
pins: 1 OFF1, 2 -IN, 3 +IN, 4 V- (power), 6 OUT (out), 7 V+ (power), 8 OFF2

## OPA*?UA
designator IC?, comment Ultra-Low Noise, Precision OP AMP   Source: http://focus.ti.com/lit/ds/symlink/opa27.pdf http://focus.ti.com .. opa241.pdf
footprint SO08
pins: 1 OFF1, 2 -IN, 3 +IN, 4 V- (power), 6 OUT (out), 7 V+ (power), 8 OFF2

## OPA*P
designator IC?, comment Single Operational Amplifier   Low Power, Single-Supply, Rail-To-Rail Operational Amplifier Source: http://focus.ti.com/lit/ds/symlink/opa2345.pdf
footprint DIL08
pins: 2 -IN, 3 +IN, 4 V- (power), 6 OUT (out), 7 V+ (power)

## OPA*U
designator IC?, comment Single Operational Amplifier   Low Power, Single-Supply, Rail-To-Rail Operational Amplifier Source: http://focus.ti.com/lit/ds/symlink/opa2345.pdf
footprint SO08
pins: 2 -IN, 3 +IN, 4 V- (power), 6 OUT (out), 7 V+ (power)

## PA02
designator IC?, comment POWER OPERATIONAL AMPLIFIER   SourcE: http://eportal.apexmicrotech.com/mainsite/pdf/pa02u.pdf
footprint TO3-8
pins: 1 RCL+, 2 V+ (power), 3 OUT@1 (out), 4 OUT@2 (out), 5 -IN, 6 +IN, 7 V- (power), 8 RCL-

## PA02SOCKET
designator IC?, comment POWER OPERATIONAL AMPLIFIER   SourcE: http://eportal.apexmicrotech.com/mainsite/pdf/pa02u.pdf
footprint 0804MC
pins: 1 RCL+, 2 V+ (power), 3 OUT@1 (out), 4 OUT@2 (out), 5 -IN, 6 +IN, 7 V- (power), 8 RCL-

## PA85*
designator IC?, comment HIGH VOLTAGE POWER OPERATIONAL AMPLIFIER   Source: http://eportal.apexmicrotech.com .. mXvtzxx.pdf
footprint TO3-8
pins: 1 OUT (out), 2 RCL, 3 V+ (power), 4 +IN, 5 -IN, 6 V- (power), 7 RC, 8 CC

## PA94
designator IC?, comment HIGH VOLTAGE POWER OPERATIONAL AMPLIFIER (900V)   Source: www.apexmicrotech.com .. pa94u.pdf
footprint SIP8-DQ
pins: 1 -IN, 2 +IN, 3 C1, 4 C2, 5 OUT (out), 6 ILIM, 7 V- (power), 8 V+ (power)

## PA241CE
designator IC?, comment High Voltage Power Operational Amplifier   Source: eportal.apexmicrotech.com/mainsite/pdf/PA241u.pdf
footprint TO3-8
pins: 1 ILIM, 2 C2, 3 C1, 4 OUT (out), 5 -IN, 6 +IN, 7 V- (power), 8 V+ (power)

## PA241DF
designator IC?, comment High Voltage Power Operational Amplifier   Source: eportal.apexmicrotech.com/mainsite/pdf/PA241u.pdf
footprint PSOP24
pins: 5 -IN, 7 +IN, 12 V- (power), 13 V+ (power), 15 ILIM, 17 C1, 19 C2, 21 OUT (out)

## PA241DW
designator IC?, comment High Voltage Power Operational Amplifier   Source: eportal.apexmicrotech.com/mainsite/pdf/PA241u.pdf
footprint SIP-10
pins: 1 -IN, 2 +IN, 5 V- (power), 6 V+ (power), 7 ILIM, 8 C2, 9 C1, 10 OUT (out)

## RC4136D
designator IC?, comment OP AMP  (value not drawn)
footprint SO14
part A pins: 1 -IN, 2 +IN, 3 OUT (out)
part B pins: 4 OUT (out), 5 +IN, 6 -IN
part C pins: 8 -IN, 9 +IN, 10 OUT (out)
part D pins: 12 OUT (out), 13 +IN, 14 -IN
part E pins: 7 V- (power), 11 V+ (power)

## RC4136FK
designator IC?, comment OP AMP  (value not drawn)
footprint PLCC20S
part A pins: 2 -IN, 3 +IN, 4 OUT (out)
part B pins: 6 OUT (out), 8 +IN, 9 -IN
part C pins: 12 -IN, 13 +IN, 14 OUT (out)
part D pins: 18 OUT (out), 19 +IN, 20 -IN
part E pins: 10 V- (power), 16 V+ (power)
part F pins: 1 NC
part G pins: 5 NC
part H pins: 7 NC
part I pins: 11 NC
part J pins: 15 NC
part K pins: 17 NC

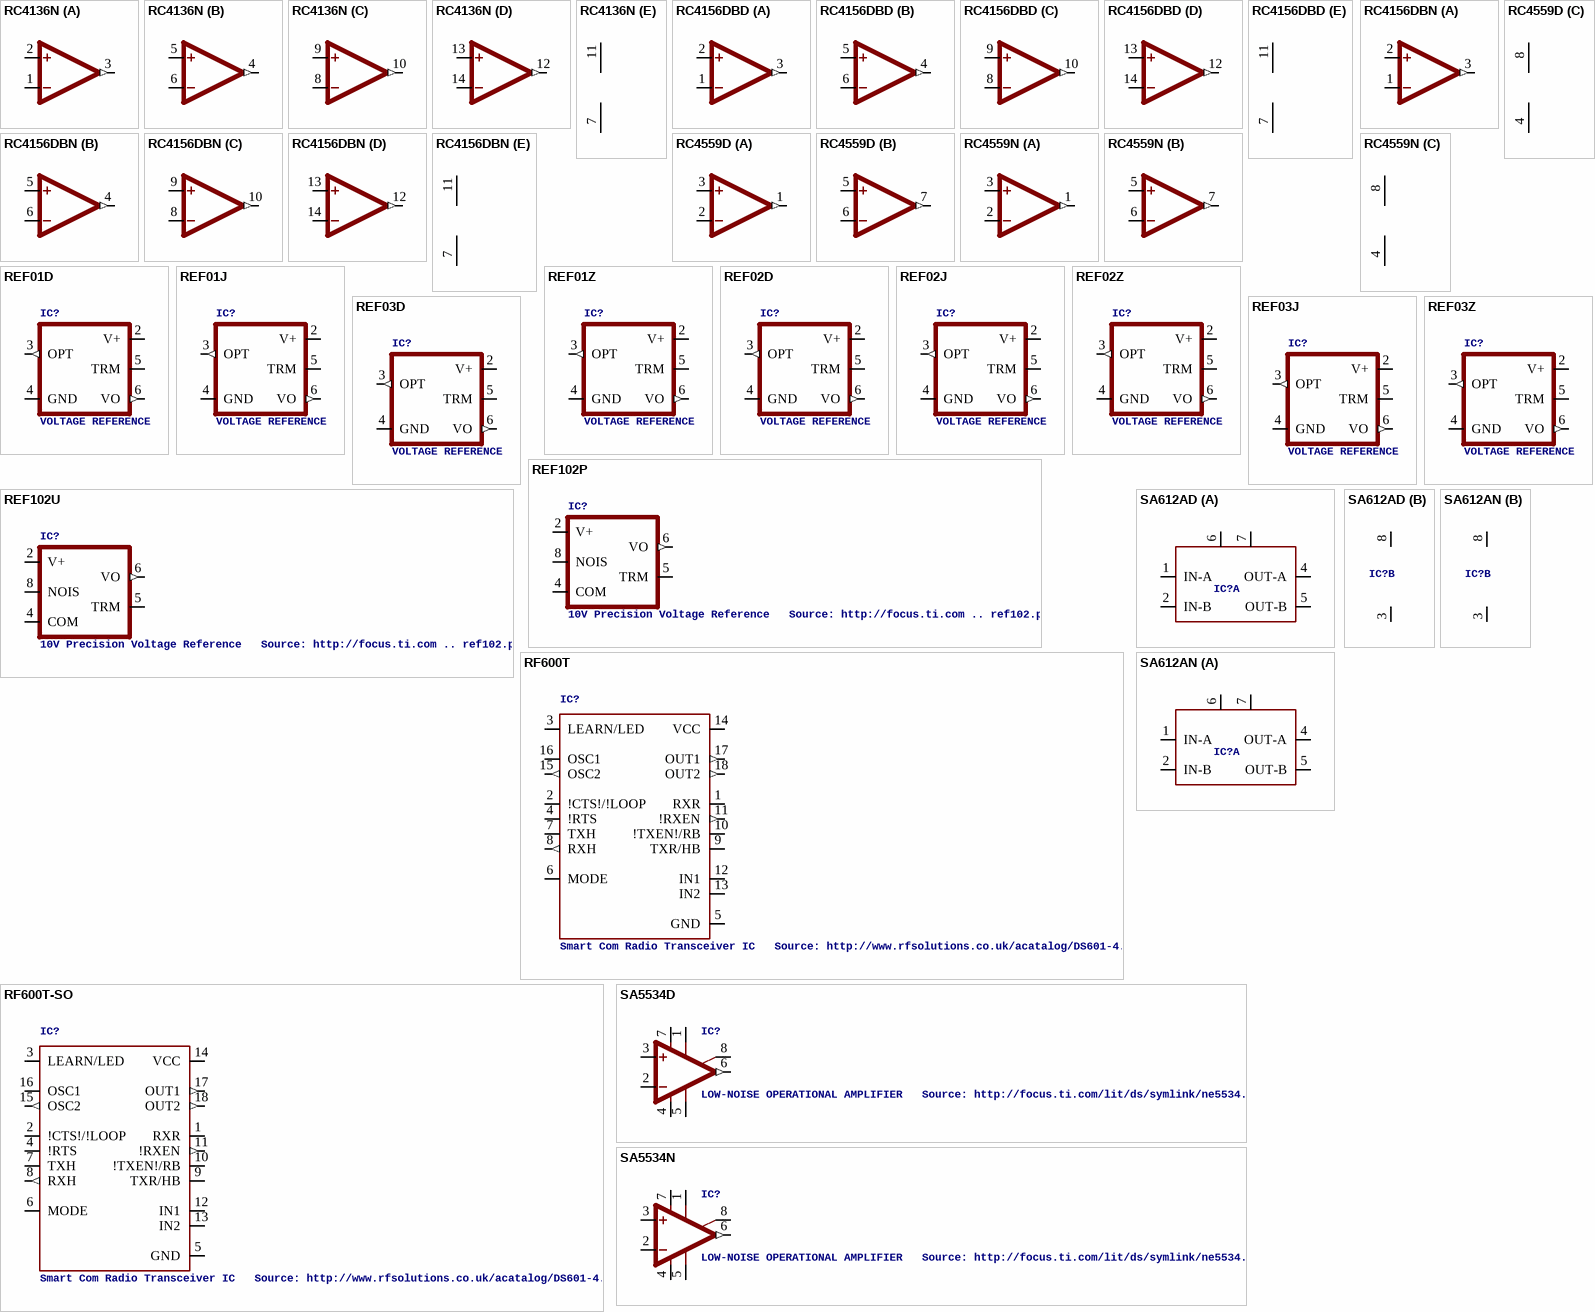
[diagram p32: symbols RC4136N to SA5534N]

## RC4136N
designator IC?, comment OP AMP  (value not drawn)
footprint DIL14
part A pins: 1 -IN, 2 +IN, 3 OUT (out)
part B pins: 4 OUT (out), 5 +IN, 6 -IN
part C pins: 8 -IN, 9 +IN, 10 OUT (out)
part D pins: 12 OUT (out), 13 +IN, 14 -IN
part E pins: 7 V- (power), 11 V+ (power)

## RC4156DBD
designator IC?, comment OP AMP  (value not drawn)
footprint SO14
part A pins: 1 -IN, 2 +IN, 3 OUT (out)
part B pins: 4 OUT (out), 5 +IN, 6 -IN
part C pins: 8 -IN, 9 +IN, 10 OUT (out)
part D pins: 12 OUT (out), 13 +IN, 14 -IN
part E pins: 7 V- (power), 11 V+ (power)

## RC4156DBN
designator IC?, comment OP AMP  (value not drawn)
footprint DIL14
part A pins: 1 -IN, 2 +IN, 3 OUT (out)
part B pins: 4 OUT (out), 5 +IN, 6 -IN
part C pins: 8 -IN, 9 +IN, 10 OUT (out)
part D pins: 12 OUT (out), 13 +IN, 14 -IN
part E pins: 7 V- (power), 11 V+ (power)

## RC4559D
designator IC?, comment OP AMP  (value not drawn)
footprint SO08
part A pins: 1 OUT (out), 2 -IN, 3 +IN
part B pins: 5 +IN, 6 -IN, 7 OUT (out)
part C pins: 4 V- (power), 8 V+ (power)

## RC4559N
designator IC?, comment OP AMP  (value not drawn)
footprint DIL08
part A pins: 1 OUT (out), 2 -IN, 3 +IN
part B pins: 5 +IN, 6 -IN, 7 OUT (out)
part C pins: 4 V- (power), 8 V+ (power)

## REF01D
designator IC?, comment VOLTAGE REFERENCE
footprint SO08
pins: 2 V+ (power), 3 OPT (out), 4 GND (power), 5 TRM, 6 VO (out)

## REF01J
designator IC?, comment VOLTAGE REFERENCE
footprint TO99
pins: 2 V+ (power), 3 OPT (out), 4 GND (power), 5 TRM, 6 VO (out)

## REF01Z
designator IC?, comment VOLTAGE REFERENCE
footprint DIL08
pins: 2 V+ (power), 3 OPT (out), 4 GND (power), 5 TRM, 6 VO (out)

## REF02D
designator IC?, comment VOLTAGE REFERENCE
footprint SO08
pins: 2 V+ (power), 3 OPT (out), 4 GND (power), 5 TRM, 6 VO (out)

## REF02J
designator IC?, comment VOLTAGE REFERENCE
footprint TO99
pins: 2 V+ (power), 3 OPT (out), 4 GND (power), 5 TRM, 6 VO (out)

## REF02Z
designator IC?, comment VOLTAGE REFERENCE
footprint DIL08
pins: 2 V+ (power), 3 OPT (out), 4 GND (power), 5 TRM, 6 VO (out)

## REF03D
designator IC?, comment VOLTAGE REFERENCE
footprint SO08
pins: 2 V+ (power), 3 OPT (out), 4 GND (power), 5 TRM, 6 VO (out)

## REF03J
designator IC?, comment VOLTAGE REFERENCE
footprint TO99
pins: 2 V+ (power), 3 OPT (out), 4 GND (power), 5 TRM, 6 VO (out)

## REF03Z
designator IC?, comment VOLTAGE REFERENCE
footprint DIL08
pins: 2 V+ (power), 3 OPT (out), 4 GND (power), 5 TRM, 6 VO (out)

## REF102P
designator IC?, comment 10V Precision Voltage Reference   Source: http://focus.ti.com .. ref102.pdf
footprint DIL08
pins: 2 V+, 4 COM, 5 TRM, 6 VO (out), 8 NOIS

## REF102U
designator IC?, comment 10V Precision Voltage Reference   Source: http://focus.ti.com .. ref102.pdf
footprint 0804MC
pins: 2 V+, 4 COM, 5 TRM, 6 VO (out), 8 NOIS

## RF600T
designator IC?, comment Smart Com Radio Transceiver IC   Source: http://www.rfsolutions.co.uk/acatalog/DS601-4.pdf
footprint DIL18
pins: 1 RXR, 2 !CTS!/!LOOP, 3 LEARN/LED, 4 !RTS, 5 GND, 6 MODE, 7 TXH, 8 RXH (out), 9 TXR/HB, 10 !TXEN!/RB, 11 !RXEN (out), 12 IN1, 13 IN2, 14 VCC, 15 OSC2 (out), 16 OSC1, 17 OUT1 (out), 18 OUT2 (out)

## RF600T-SO
designator IC?, comment Smart Com Radio Transceiver IC   Source: http://www.rfsolutions.co.uk/acatalog/DS601-4.pdf
footprint SO18W300
pins: 1 RXR, 2 !CTS!/!LOOP, 3 LEARN/LED, 4 !RTS, 5 GND, 6 MODE, 7 TXH, 8 RXH (out), 9 TXR/HB, 10 !TXEN!/RB, 11 !RXEN (out), 12 IN1, 13 IN2, 14 VCC, 15 OSC2 (out), 16 OSC1, 17 OUT1 (out), 18 OUT2 (out)

## SA612AD
designator IC?, comment Double-balanced mixer and oscillator NE612/SA612   Source: www-eu2.semiconductors.philips.com/acrobat/datasheets/SA612A.pdf  (value not drawn)
footprint SO08
part A pins: 1 IN-A, 2 IN-B, 4 OUT-A, 5 OUT-B, 6 OSC, 7 OSC'
part B pins: 3 GND (power), 8 VCC (power)

## SA612AN
designator IC?, comment Double-balanced mixer and oscillator NE612/SA612   Source: www-eu2.semiconductors.philips.com/acrobat/datasheets/SA612A.pdf  (value not drawn)
footprint DIL08
part A pins: 1 IN-A, 2 IN-B, 4 OUT-A, 5 OUT-B, 6 OSC, 7 OSC'
part B pins: 3 GND (power), 8 VCC (power)

## SA5534D
designator IC?, comment LOW-NOISE OPERATIONAL AMPLIFIER   Source: http://focus.ti.com/lit/ds/symlink/ne5534.pdf
footprint SO08
pins: 1 ON, 2 -IN, 3 +IN, 4 V- (power), 5 CMP, 6 OUT (out), 7 V+ (power), 8 ON/CMP

## SA5534N
designator IC?, comment LOW-NOISE OPERATIONAL AMPLIFIER   Source: http://focus.ti.com/lit/ds/symlink/ne5534.pdf
footprint DIL08
pins: 1 ON, 2 -IN, 3 +IN, 4 V- (power), 5 CMP, 6 OUT (out), 7 V+ (power), 8 ON/CMP

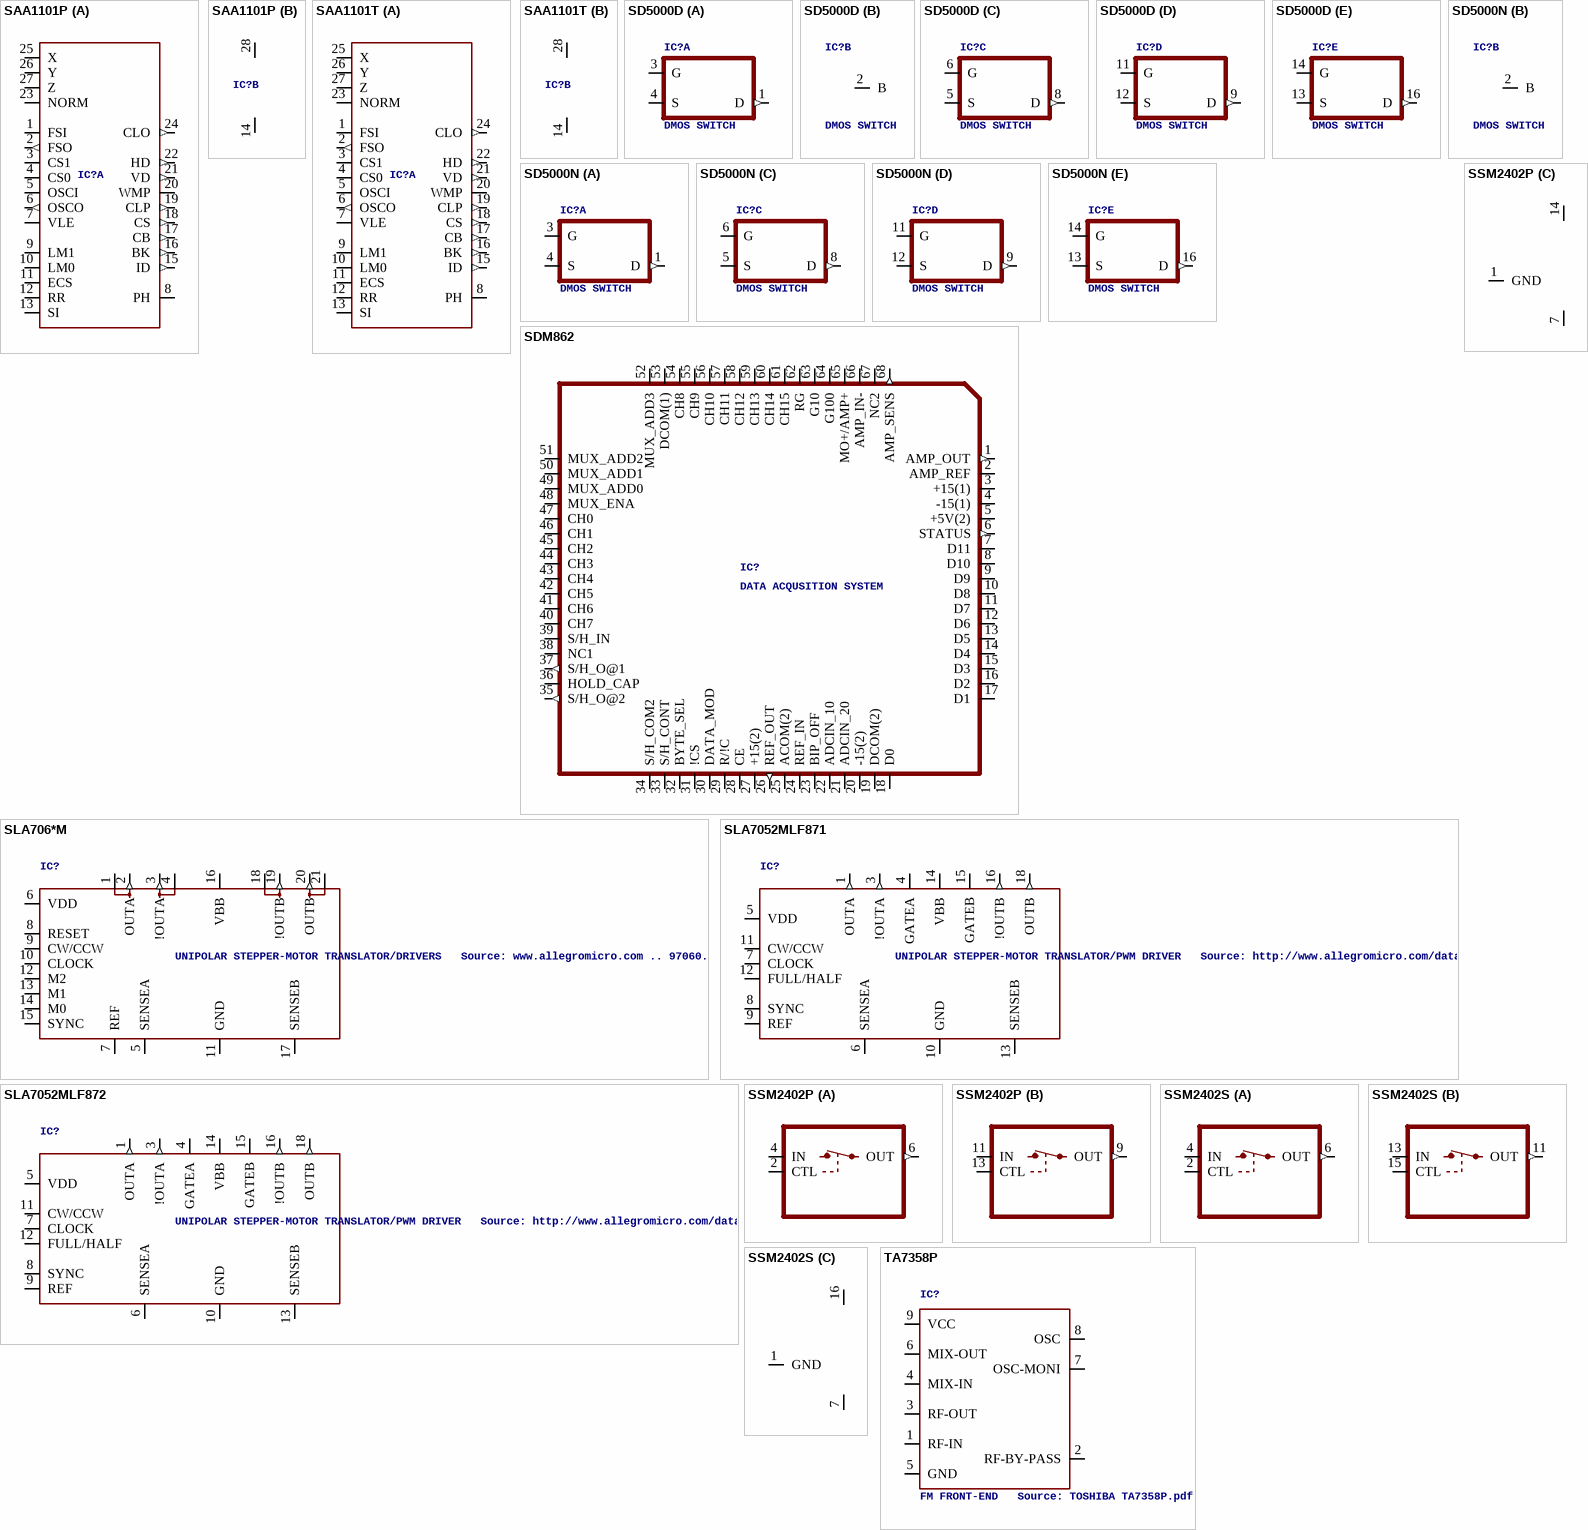
[diagram p33: symbols SAA1101P to TA7358P]

## SAA1101P
designator IC?, comment Universal sync generator (USG)   Philips Semiconductors  (value not drawn)
footprint DIL28-6
part A pins: 1 FSI, 2 FSO (out), 3 CS1, 4 CS0, 5 OSCI, 6 OSCO (out), 7 VLE, 8 PH (hiz), 9 LM1, 10 LM0, 11 ECS, 12 RR, 13 SI, 15 ID (out), 16 BK (out), 17 CB (out), 18 CS (out), 19 CLP (out), 20 WMP, 21 VD (out), 22 HD (out), 23 NORM, 24 CLO (out), 25 X, 26 Y, 27 Z
part B pins: 14 VSS (power), 28 VDD (power)

## SAA1101T
designator IC?, comment Universal sync generator (USG)   Philips Semiconductors  (value not drawn)
footprint SO28W
part A pins: 1 FSI, 2 FSO (out), 3 CS1, 4 CS0, 5 OSCI, 6 OSCO (out), 7 VLE, 8 PH (hiz), 9 LM1, 10 LM0, 11 ECS, 12 RR, 13 SI, 15 ID (out), 16 BK (out), 17 CB (out), 18 CS (out), 19 CLP (out), 20 WMP, 21 VD (out), 22 HD (out), 23 NORM, 24 CLO (out), 25 X, 26 Y, 27 Z
part B pins: 14 VSS (power), 28 VDD (power)

## SD5000D
designator IC?, comment DMOS SWITCH
footprint SO16
part A pins: 1 D (out), 3 G, 4 S
part B pins: 2 B (power)
part C pins: 5 S, 6 G, 8 D (out)
part D pins: 9 D (out), 11 G, 12 S
part E pins: 13 S, 14 G, 16 D (out)

## SD5000N
designator IC?, comment DMOS SWITCH
footprint DIL16
part A pins: 1 D (out), 3 G, 4 S
part B pins: 2 B (power)
part C pins: 5 S, 6 G, 8 D (out)
part D pins: 9 D (out), 11 G, 12 S
part E pins: 13 S, 14 G, 16 D (out)

## SDM862
designator IC?, comment DATA ACQUSITION SYSTEM
footprint PGA68
pins: 1 AMP_OUT (out), 2 AMP_REF, 3 +15(1) (power), 4 -15(1) (power), 5 +5V(2) (power), 6 STATUS (out), 7 D11 (hiz), 8 D10 (hiz), 9 D9 (hiz), 10 D8 (hiz), 11 D7 (hiz), 12 D6 (hiz), 13 D5 (hiz), 14 D4 (hiz), 15 D3 (hiz), 16 D2 (hiz), 17 D1 (hiz), 18 D0 (hiz), 19 DCOM(2) (power), 20 -15(2) (power), 21 ADCIN_20, 22 ADCIN_10, 23 BIP_OFF, 24 REF_IN, 25 ACOM(2) (power), 26 REF_OUT (out), 27 +15(2) (power), 28 CE, 29 R/!C, 30 DATA_MOD, 31 !CS, 32 BYTE_SEL, 33 S/H_CONT, 34 S/H_COM2, 35 S/H_O@2 (out), 36 HOLD_CAP, 37 S/H_O@1 (out), 38 NC1, 39 S/H_IN, 40 CH7, 41 CH6, 42 CH5, 43 CH4, 44 CH3, 45 CH2, 46 CH1, 47 CH0, 48 MUX_ENA, 49 MUX_ADD0, 50 MUX_ADD1, 51 MUX_ADD2, 52 MUX_ADD3, 53 DCOM(1) (power), 54 CH8, 55 CH9, 56 CH10, 57 CH11, 58 CH12, 59 CH13, 60 CH14, 61 CH15, 62 RG, 63 G10, 64 G100, 65 MO+/AMP+, 66 AMP_IN-, 67 NC2, 68 AMP_SENS (out)

## SLA706*M
designator IC?, comment UNIPOLAR STEPPER-MOTOR TRANSLATOR/DRIVERS   Source: www.allegromicro.com .. 97060.pdf
footprint ZIP21-SLA
pins: 1 OUTA@1, 2 OUTA (out), 3 !OUTA (out), 4 !OUTA@1, 5 SENSEA, 6 VDD (power), 7 REF, 8 RESET, 9 CW/CCW, 10 CLOCK, 11 GND (power), 12 M2, 13 M1, 14 M0, 15 SYNC, 16 VBB (power), 17 SENSEB, 18 !OUTB@1, 19 !OUTB (out), 20 OUTB (out), 21 OUTB@1

## SLA7052MLF871
designator IC?, comment UNIPOLAR STEPPER-MOTOR TRANSLATOR/PWM DRIVER   Source: http://www.allegromicro.com/datafile/97052.pdf
footprint LF871
pins: 1 OUTA (out), 3 !OUTA (out), 4 GATEA, 5 VDD (power), 6 SENSEA, 7 CLOCK, 8 SYNC, 9 REF, 10 GND (power), 11 CW/CCW, 12 FULL/HALF, 13 SENSEB, 14 VBB (power), 15 GATEB, 16 !OUTB (out), 18 OUTB (out)

## SLA7052MLF872
designator IC?, comment UNIPOLAR STEPPER-MOTOR TRANSLATOR/PWM DRIVER   Source: http://www.allegromicro.com/datafile/97052.pdf
footprint LF872
pins: 1 OUTA (out), 3 !OUTA (out), 4 GATEA, 5 VDD (power), 6 SENSEA, 7 CLOCK, 8 SYNC, 9 REF, 10 GND (power), 11 CW/CCW, 12 FULL/HALF, 13 SENSEB, 14 VBB (power), 15 GATEB, 16 !OUTB (out), 18 OUTB (out)

## SSM2402P
designator IC?, comment ANALOG SWITCH  (value not drawn)
footprint DIL14
part A pins: 2 CTL, 4 IN, 6 OUT (out)
part B pins: 9 OUT (out), 11 IN, 13 CTL
part C pins: 1 GND (power), 7 V- (power), 14 V+ (power)

## SSM2402S
designator IC?, comment ANALOG SWITCH  (value not drawn)
footprint SO16L
part A pins: 2 CTL, 4 IN, 6 OUT (out)
part B pins: 11 OUT (out), 13 IN, 15 CTL
part C pins: 1 GND (power), 7 V- (power), 16 V+ (power)

## TA7358P
designator IC?, comment FM FRONT-END   Source: TOSHIBA TA7358P.pdf
footprint SIP9-P-2.54A
pins: 1 RF-IN, 2 RF-BY-PASS, 3 RF-OUT, 4 MIX-IN, 5 GND, 6 MIX-OUT, 7 OSC-MONI, 8 OSC, 9 VCC

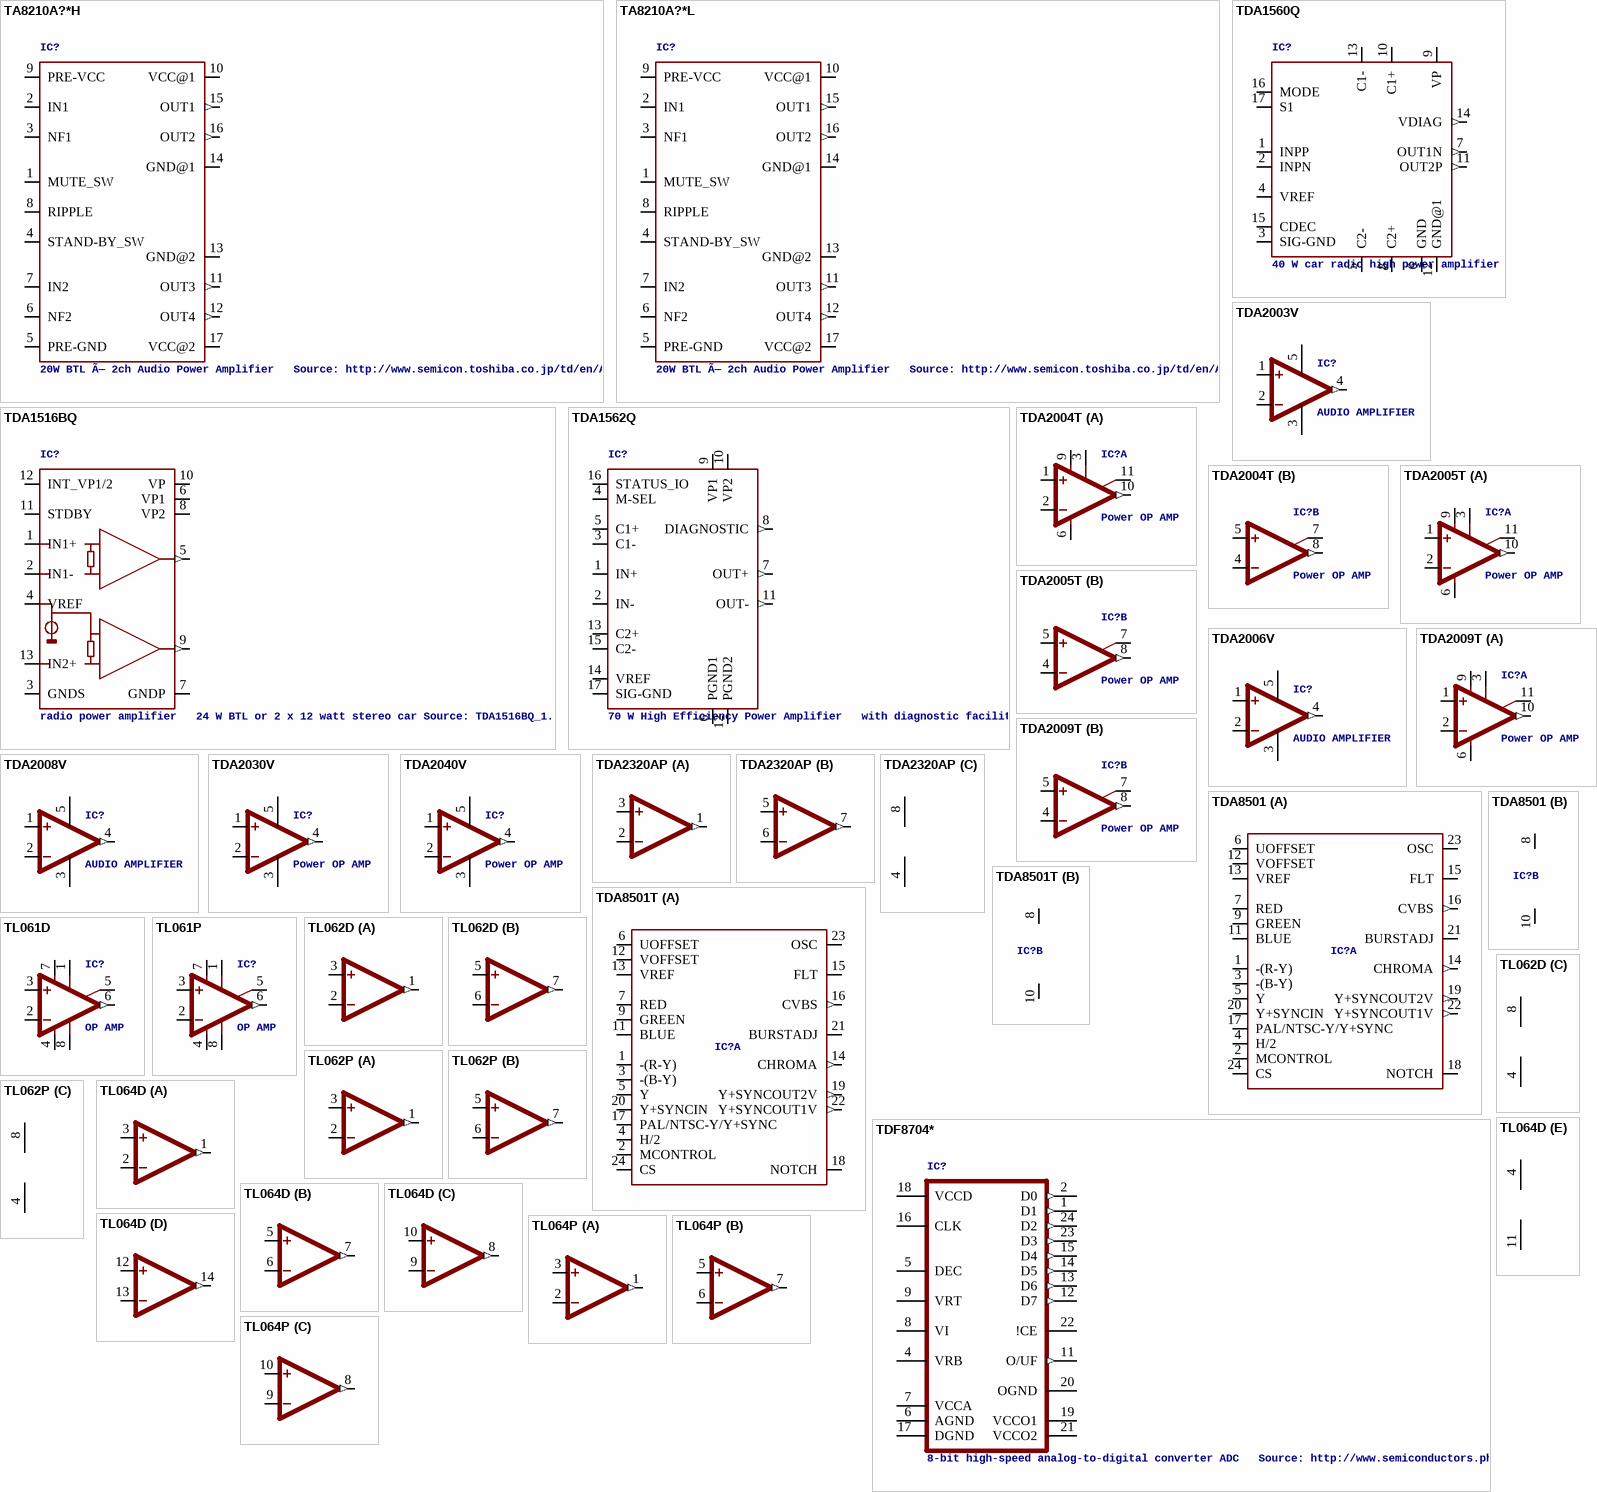
[diagram p34: symbols TA8210A?*H to TL064P]

## TA8210A?*H
designator IC?, comment 20W BTL Ã— 2ch Audio Power Amplifier   Source: http://www.semicon.toshiba.co.jp/td/en/ASSP/Audio_ICs/en_20050517_TA8210ALQ_datasheet.pdf
footprint HZIP17-P-2.00
pins: 1 MUTE_SW, 2 IN1, 3 NF1, 4 STAND-BY_SW, 5 PRE-GND (power), 6 NF2, 7 IN2, 8 RIPPLE, 9 PRE-VCC (power), 10 VCC@1 (power), 11 OUT3 (out), 12 OUT4 (out), 13 GND@2 (power), 14 GND@1 (power), 15 OUT1 (out), 16 OUT2 (out), 17 VCC@2 (power)

## TA8210A?*L
designator IC?, comment 20W BTL Ã— 2ch Audio Power Amplifier   Source: http://www.semicon.toshiba.co.jp/td/en/ASSP/Audio_ICs/en_20050517_TA8210ALQ_datasheet.pdf
footprint HSIP17-P-2.00
pins: 1 MUTE_SW, 2 IN1, 3 NF1, 4 STAND-BY_SW, 5 PRE-GND (power), 6 NF2, 7 IN2, 8 RIPPLE, 9 PRE-VCC (power), 10 VCC@1 (power), 11 OUT3 (out), 12 OUT4 (out), 13 GND@2 (power), 14 GND@1 (power), 15 OUT1 (out), 16 OUT2 (out), 17 VCC@2 (power)

## TDA1516BQ
designator IC?, comment radio power amplifier   24 W BTL or 2 x 12 watt stereo car Source: TDA1516BQ_1.pdf
footprint MULTIWAT-SIL13
pins: 1 IN1+, 2 IN1-, 3 GNDS (power), 4 VREF, 5 OUT1 (out), 6 VP1 (power), 7 GNDP (power), 8 VP2 (power), 9 OUT2 (out), 10 VP, 11 STDBY, 12 INT_VP1/2, 13 IN2+

## TDA1560Q
designator IC?, comment 40 W car radio high power amplifier
footprint MULTIWAT-SIL17
pins: 1 INPP, 2 INPN, 3 SIG-GND, 4 VREF, 5 C2-, 6 GND (power), 7 OUT1N (out), 8 C2+, 9 VP (power), 10 C1+, 11 OUT2P (out), 12 GND@1 (power), 13 C1-, 14 VDIAG (out), 15 CDEC, 16 MODE, 17 S1

## TDA1562Q
designator IC?, comment 70 W High Efficiency Power Amplifier   with diagnostic facility
footprint MULTIWAT-SIL17
pins: 1 IN+, 2 IN-, 3 C1-, 4 M-SEL, 5 C1+, 6 PGND1 (power), 7 OUT+ (out), 8 DIAGNOSTIC (out), 9 VP1 (power), 10 VP2 (power), 11 OUT- (out), 12 PGND2 (power), 13 C2+, 14 VREF, 15 C2-, 16 STATUS_IO, 17 SIG-GND

## TDA2003V
designator IC?, comment AUDIO AMPLIFIER
footprint CB360
pins: 1 +IN, 2 -IN, 3 GND (power), 4 OUT (out), 5 V+ (power)

## TDA2004T
designator IC?, comment Power OP AMP
footprint SIP11
part A pins: 1 +IN, 2 -IN, 3 SVRR, 6 GND (power), 9 V+ (power), 10 OUT (out), 11 BTSP
part B pins: 4 -IN, 5 +IN, 7 BTSP, 8 OUT (out)

## TDA2005T
designator IC?, comment Power OP AMP
footprint SIP11
part A pins: 1 +IN, 2 -IN, 3 SVRR, 6 GND (power), 9 V+ (power), 10 OUT (out), 11 BTSP
part B pins: 4 -IN, 5 +IN, 7 BTSP, 8 OUT (out)

## TDA2006V
designator IC?, comment AUDIO AMPLIFIER
footprint CB360
pins: 1 +IN, 2 -IN, 3 V- (power), 4 OUT (out), 5 V+ (power)

## TDA2008V
designator IC?, comment AUDIO AMPLIFIER
footprint CB360
pins: 1 +IN, 2 -IN, 3 GND (power), 4 OUT (out), 5 V+ (power)

## TDA2009T
designator IC?, comment Power OP AMP
footprint SIP11
part A pins: 1 +IN, 2 -IN, 3 SVRR, 6 GND (power), 9 V+ (power), 10 OUT (out), 11 BTSP
part B pins: 4 -IN, 5 +IN, 7 BTSP, 8 OUT (out)

## TDA2030V
designator IC?, comment Power OP AMP
footprint CB360
pins: 1 +IN, 2 -IN, 3 GND (power), 4 OUT (out), 5 V+ (power)

## TDA2040V
designator IC?, comment Power OP AMP
footprint CB360
pins: 1 +IN, 2 -IN, 3 V- (power), 4 OUT (out), 5 V+ (power)

## TDA2320AP
designator IC?, comment Power OP AMP  (value not drawn)
footprint DIL08
part A pins: 1 OUT (out), 2 -IN, 3 +IN
part B pins: 5 +IN, 6 -IN, 7 OUT (out)
part C pins: 4 V- (power), 8 V+ (power)

## TDA8501
designator IC?, comment PAL/NTSC encoder    Philips Semiconductors  (value not drawn)
footprint DIL24-6
part A pins: 1 -(R-Y), 2 MCONTROL, 3 -(B-Y), 4 H/2, 5 Y, 6 UOFFSET, 7 RED, 9 GREEN, 11 BLUE, 12 VOFFSET, 13 VREF, 14 CHROMA (out), 15 FLT, 16 CVBS (out), 17 PAL/NTSC-Y/Y+SYNC, 18 NOTCH, 19 Y+SYNCOUT2V (out), 20 Y+SYNCIN, 21 BURSTADJ, 22 Y+SYNCOUT1V (out), 23 OSC, 24 CS
part B pins: 8 VCC (power), 10 VSS (power)

## TDA8501T
designator IC?, comment PAL/NTSC encoder    Philips Semiconductors  (value not drawn)
footprint SO24W
part A pins: 1 -(R-Y), 2 MCONTROL, 3 -(B-Y), 4 H/2, 5 Y, 6 UOFFSET, 7 RED, 9 GREEN, 11 BLUE, 12 VOFFSET, 13 VREF, 14 CHROMA (out), 15 FLT, 16 CVBS (out), 17 PAL/NTSC-Y/Y+SYNC, 18 NOTCH, 19 Y+SYNCOUT2V (out), 20 Y+SYNCIN, 21 BURSTADJ, 22 Y+SYNCOUT1V (out), 23 OSC, 24 CS
part B pins: 8 VCC (power), 10 VSS (power)

## TDF8704*
designator IC?, comment 8-bit high-speed analog-to-digital converter ADC   Source: http://www.semiconductors.philips.com/acrobat_download/datasheets/TDF8704_3.pdf
footprint SO24W
pins: 1 D1 (out), 2 D0 (out), 4 VRB, 5 DEC, 6 AGND, 7 VCCA, 8 VI, 9 VRT, 11 O/UF (out), 12 D7 (out), 13 D6 (out), 14 D5 (out), 15 D4 (out), 16 CLK, 17 DGND, 18 VCCD, 19 VCCO1, 20 OGND, 21 VCCO2, 22 !CE, 23 D3 (out), 24 D2 (out)

## TL061D
designator IC?, comment OP AMP
footprint SO08
pins: 1 ON1, 2 -IN, 3 +IN, 4 V- (power), 5 ON2, 6 OUT (out), 7 V+ (power), 8 OPT

## TL061P
designator IC?, comment OP AMP
footprint DIL08
pins: 1 ON1, 2 -IN, 3 +IN, 4 V- (power), 5 ON2, 6 OUT (out), 7 V+ (power), 8 OPT

## TL062D
designator IC?, comment OP AMP  (value not drawn)
footprint SO08
part A pins: 1 OUT (out), 2 -IN, 3 +IN
part B pins: 5 +IN, 6 -IN, 7 OUT (out)
part C pins: 4 V- (power), 8 V+ (power)

## TL062P
designator IC?, comment OP AMP  (value not drawn)
footprint DIL08
part A pins: 1 OUT (out), 2 -IN, 3 +IN
part B pins: 5 +IN, 6 -IN, 7 OUT (out)
part C pins: 4 V- (power), 8 V+ (power)

## TL064D
designator IC?, comment OP AMP  (value not drawn)
footprint SO14
part A pins: 1 OUT (out), 2 -IN, 3 +IN
part B pins: 5 +IN, 6 -IN, 7 OUT (out)
part C pins: 8 OUT (out), 9 -IN, 10 +IN
part D pins: 12 +IN, 13 -IN, 14 OUT (out)
part E pins: 4 V+ (power), 11 V- (power)

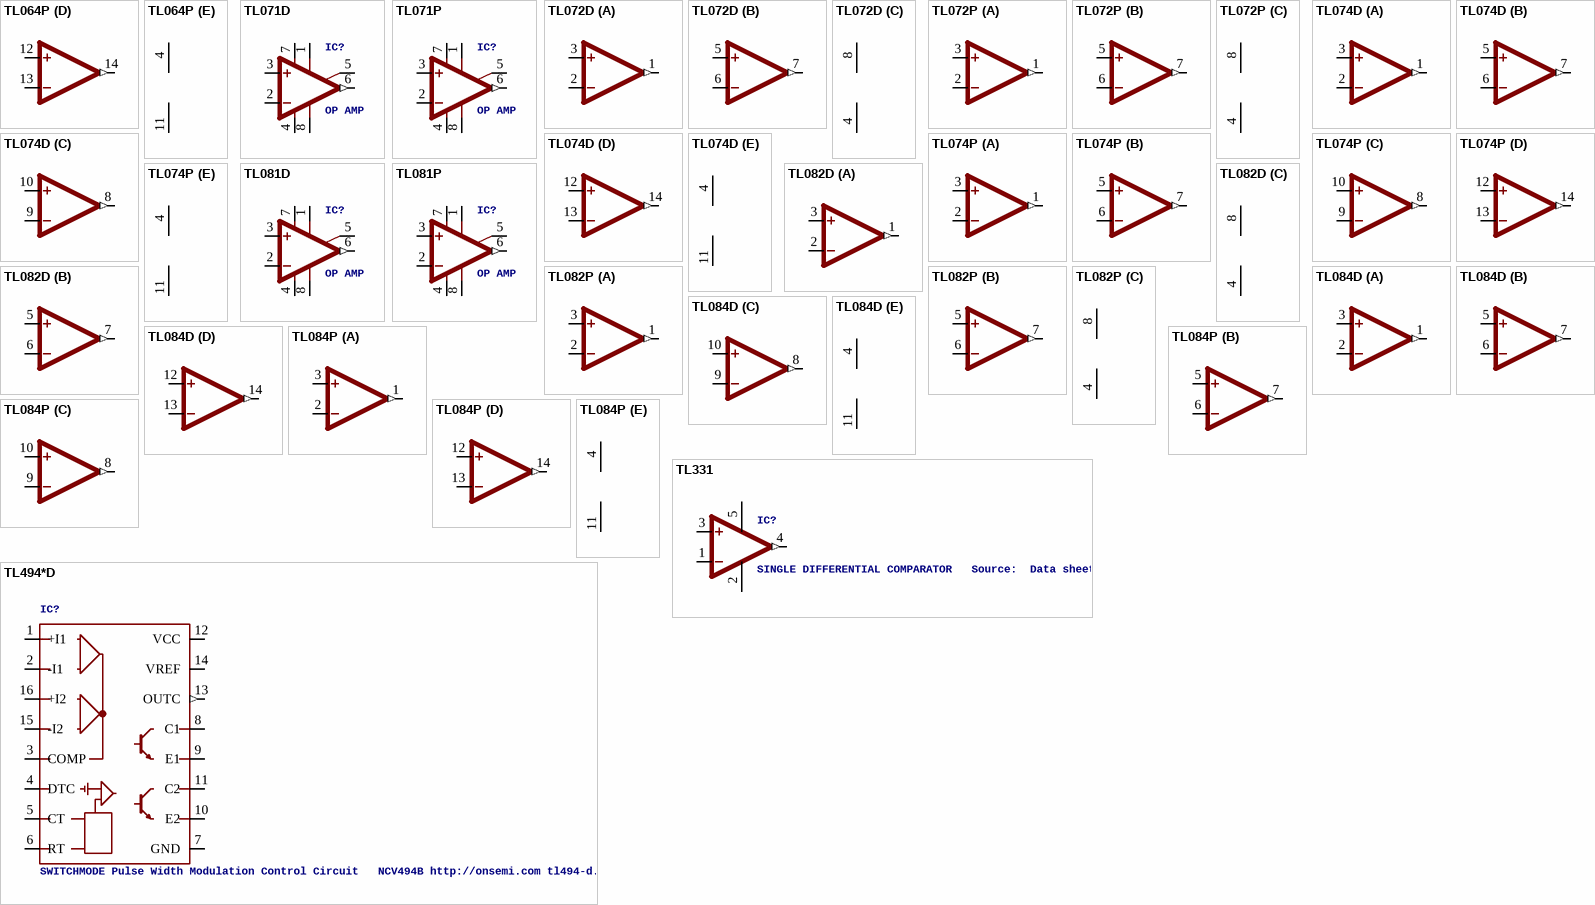
[diagram p35: symbols TL064P to TL494*D]

## TL064P
designator IC?, comment OP AMP  (value not drawn)
footprint DIL14
part A pins: 1 OUT (out), 2 -IN, 3 +IN
part B pins: 5 +IN, 6 -IN, 7 OUT (out)
part C pins: 8 OUT (out), 9 -IN, 10 +IN
part D pins: 12 +IN, 13 -IN, 14 OUT (out)
part E pins: 4 V+ (power), 11 V- (power)

## TL071D
designator IC?, comment OP AMP
footprint SO08
pins: 1 ON1, 2 -IN, 3 +IN, 4 V- (power), 5 ON2, 6 OUT (out), 7 V+ (power), 8 OPT

## TL071P
designator IC?, comment OP AMP
footprint DIL08
pins: 1 ON1, 2 -IN, 3 +IN, 4 V- (power), 5 ON2, 6 OUT (out), 7 V+ (power), 8 OPT

## TL072D
designator IC?, comment OP AMP  (value not drawn)
footprint SO08
part A pins: 1 OUT (out), 2 -IN, 3 +IN
part B pins: 5 +IN, 6 -IN, 7 OUT (out)
part C pins: 4 V- (power), 8 V+ (power)

## TL072P
designator IC?, comment OP AMP  (value not drawn)
footprint DIL08
part A pins: 1 OUT (out), 2 -IN, 3 +IN
part B pins: 5 +IN, 6 -IN, 7 OUT (out)
part C pins: 4 V- (power), 8 V+ (power)

## TL074D
designator IC?, comment OP AMP  (value not drawn)
footprint SO14
part A pins: 1 OUT (out), 2 -IN, 3 +IN
part B pins: 5 +IN, 6 -IN, 7 OUT (out)
part C pins: 8 OUT (out), 9 -IN, 10 +IN
part D pins: 12 +IN, 13 -IN, 14 OUT (out)
part E pins: 4 V+ (power), 11 V- (power)

## TL074P
designator IC?, comment OP AMP  (value not drawn)
footprint DIL14
part A pins: 1 OUT (out), 2 -IN, 3 +IN
part B pins: 5 +IN, 6 -IN, 7 OUT (out)
part C pins: 8 OUT (out), 9 -IN, 10 +IN
part D pins: 12 +IN, 13 -IN, 14 OUT (out)
part E pins: 4 V+ (power), 11 V- (power)

## TL081D
designator IC?, comment OP AMP
footprint SO08
pins: 1 ON1, 2 -IN, 3 +IN, 4 V- (power), 5 ON2, 6 OUT (out), 7 V+ (power), 8 OPT

## TL081P
designator IC?, comment OP AMP
footprint DIL08
pins: 1 ON1, 2 -IN, 3 +IN, 4 V- (power), 5 ON2, 6 OUT (out), 7 V+ (power), 8 OPT

## TL082D
designator IC?, comment OP AMP    Data sheet  (value not drawn)
DATA_SHEET: <a href="http://www.ti.com/lit/ds/symlink/tl084a.pdf"> Data sheet </a>
footprint SO08
part A pins: 1 OUT (out), 2 -IN, 3 +IN
part B pins: 5 +IN, 6 -IN, 7 OUT (out)
part C pins: 4 V- (power), 8 V+ (power)

## TL082P
designator IC?, comment OP AMP    Data sheet  (value not drawn)
DATA_SHEET: <a href="http://www.ti.com/lit/ds/symlink/tl084a.pdf"> Data sheet </a>
footprint DIL08
part A pins: 1 OUT (out), 2 -IN, 3 +IN
part B pins: 5 +IN, 6 -IN, 7 OUT (out)
part C pins: 4 V- (power), 8 V+ (power)

## TL084D
designator IC?, comment OP AMP  (value not drawn)
footprint SO14
part A pins: 1 OUT (out), 2 -IN, 3 +IN
part B pins: 5 +IN, 6 -IN, 7 OUT (out)
part C pins: 8 OUT (out), 9 -IN, 10 +IN
part D pins: 12 +IN, 13 -IN, 14 OUT (out)
part E pins: 4 V+ (power), 11 V- (power)

## TL084P
designator IC?, comment OP AMP  (value not drawn)
footprint DIL14
part A pins: 1 OUT (out), 2 -IN, 3 +IN
part B pins: 5 +IN, 6 -IN, 7 OUT (out)
part C pins: 8 OUT (out), 9 -IN, 10 +IN
part D pins: 12 +IN, 13 -IN, 14 OUT (out)
part E pins: 4 V+ (power), 11 V- (power)

## TL331
designator IC?, comment SINGLE DIFFERENTIAL COMPARATOR   Source:  Data sheet
footprint DBV-R-PDSO-G5
pins: 1 -IN, 2 GND (power), 3 +IN, 4 OUT (out), 5 V+ (power)

## TL494*D
designator IC?, comment SWITCHMODE Pulse Width Modulation Control Circuit   NCV494B http://onsemi.com tl494-d.pdf
footprint SO16
pins: 1 +I1, 2 -I1, 3 COMP, 4 DTC, 5 CT, 6 RT, 7 GND (power), 8 C1, 9 E1, 10 E2, 11 C2, 12 VCC (power), 13 OUTC (out), 14 VREF, 15 -I2, 16 +I2

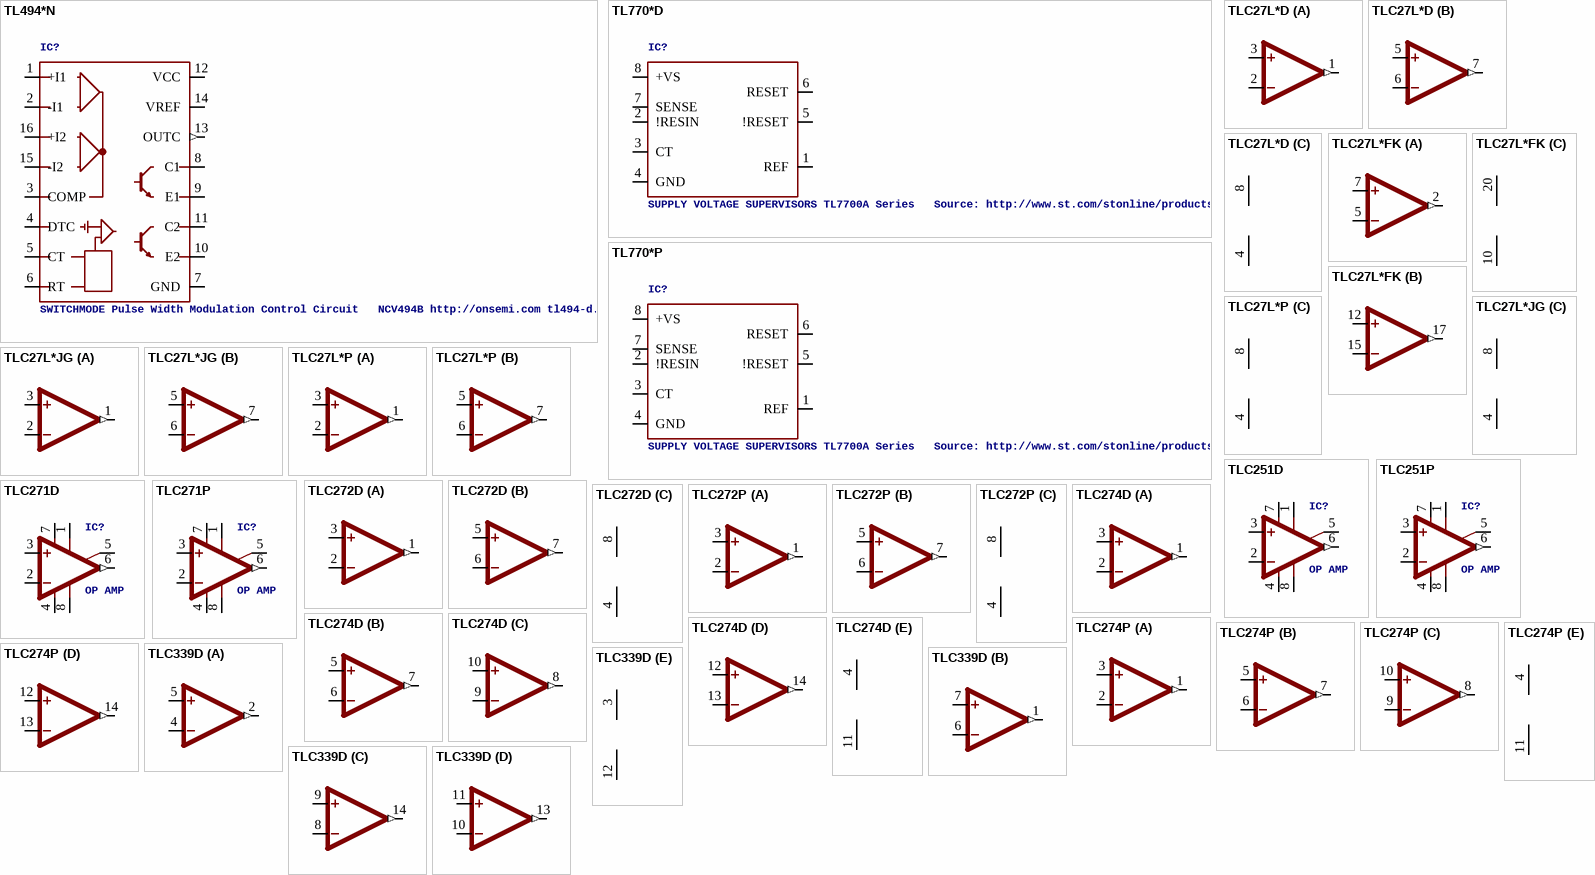
[diagram p36: symbols TL494*N to TLC339D]

## TL494*N
designator IC?, comment SWITCHMODE Pulse Width Modulation Control Circuit   NCV494B http://onsemi.com tl494-d.pdf
footprint DIL16
pins: 1 +I1, 2 -I1, 3 COMP, 4 DTC, 5 CT, 6 RT, 7 GND (power), 8 C1, 9 E1, 10 E2, 11 C2, 12 VCC (power), 13 OUTC (out), 14 VREF, 15 -I2, 16 +I2

## TL770*D
designator IC?, comment SUPPLY VOLTAGE SUPERVISORS TL7700A Series   Source: http://www.st.com/stonline/products/literature/ds/1528.pdf
footprint SO08
pins: 1 REF, 2 !RESIN, 3 CT, 4 GND (power), 5 !RESET (oc), 6 RESET (oc), 7 SENSE, 8 +VS

## TL770*P
designator IC?, comment SUPPLY VOLTAGE SUPERVISORS TL7700A Series   Source: http://www.st.com/stonline/products/literature/ds/1528.pdf
footprint DIL08
pins: 1 REF, 2 !RESIN, 3 CT, 4 GND (power), 5 !RESET (oc), 6 RESET (oc), 7 SENSE, 8 +VS

## TLC27L*D
designator IC?, comment LinCMOS(TM) PRECISION DUAL OPERATIONAL AMPLIFIERS   Source: http://focus.ti.com/lit/ds/symlink/tlc27l2.pdf  (value not drawn)
footprint SOIC8
part A pins: 1 OUT (out), 2 -IN, 3 +IN
part B pins: 5 +IN, 6 -IN, 7 OUT (out)
part C pins: 4 GND (power), 8 VDD (power)

## TLC27L*FK
designator IC?, comment LinCMOS(TM) PRECISION DUAL OPERATIONAL AMPLIFIERS   Source: http://focus.ti.com/lit/ds/symlink/tlc27l2.pdf  (value not drawn)
footprint PLCC20S
part A pins: 2 OUT (out), 5 -IN, 7 +IN
part B pins: 12 +IN, 15 -IN, 17 OUT (out)
part C pins: 10 GND (power), 20 VDD (power)

## TLC27L*JG
designator IC?, comment LinCMOS(TM) PRECISION DUAL OPERATIONAL AMPLIFIERS   Source: http://focus.ti.com/lit/ds/symlink/tlc27l2.pdf  (value not drawn)
footprint DIL08
part A pins: 1 OUT (out), 2 -IN, 3 +IN
part B pins: 5 +IN, 6 -IN, 7 OUT (out)
part C pins: 4 GND (power), 8 VDD (power)

## TLC27L*P
designator IC?, comment LinCMOS(TM) PRECISION DUAL OPERATIONAL AMPLIFIERS   Source: http://focus.ti.com/lit/ds/symlink/tlc27l2.pdf  (value not drawn)
footprint DIL08
part A pins: 1 OUT (out), 2 -IN, 3 +IN
part B pins: 5 +IN, 6 -IN, 7 OUT (out)
part C pins: 4 GND (power), 8 VDD (power)

## TLC251D
designator IC?, comment OP AMP
footprint SO08
pins: 1 ON1, 2 -IN, 3 +IN, 4 V- (power), 5 ON2, 6 OUT (out), 7 V+ (power), 8 OPT

## TLC251P
designator IC?, comment OP AMP
footprint DIL08
pins: 1 ON1, 2 -IN, 3 +IN, 4 V- (power), 5 ON2, 6 OUT (out), 7 V+ (power), 8 OPT

## TLC271D
designator IC?, comment OP AMP
footprint SO08
pins: 1 ON1, 2 -IN, 3 +IN, 4 V- (power), 5 ON2, 6 OUT (out), 7 V+ (power), 8 OPT

## TLC271P
designator IC?, comment OP AMP
footprint DIL08
pins: 1 ON1, 2 -IN, 3 +IN, 4 V- (power), 5 ON2, 6 OUT (out), 7 V+ (power), 8 OPT

## TLC272D
designator IC?, comment OP AMP  (value not drawn)
footprint SO08
part A pins: 1 OUT (out), 2 -IN, 3 +IN
part B pins: 5 +IN, 6 -IN, 7 OUT (out)
part C pins: 4 V- (power), 8 V+ (power)

## TLC272P
designator IC?, comment OP AMP  (value not drawn)
footprint DIL08
part A pins: 1 OUT (out), 2 -IN, 3 +IN
part B pins: 5 +IN, 6 -IN, 7 OUT (out)
part C pins: 4 V- (power), 8 V+ (power)

## TLC274D
designator IC?, comment OP AMP  (value not drawn)
footprint SO14
part A pins: 1 OUT (out), 2 -IN, 3 +IN
part B pins: 5 +IN, 6 -IN, 7 OUT (out)
part C pins: 8 OUT (out), 9 -IN, 10 +IN
part D pins: 12 +IN, 13 -IN, 14 OUT (out)
part E pins: 4 V+ (power), 11 V- (power)

## TLC274P
designator IC?, comment OP AMP  (value not drawn)
footprint DIL14
part A pins: 1 OUT (out), 2 -IN, 3 +IN
part B pins: 5 +IN, 6 -IN, 7 OUT (out)
part C pins: 8 OUT (out), 9 -IN, 10 +IN
part D pins: 12 +IN, 13 -IN, 14 OUT (out)
part E pins: 4 V+ (power), 11 V- (power)

## TLC339D
designator IC?, comment COMPARATOR  (value not drawn)
footprint SO14
part A pins: 2 OUT (out), 4 -IN, 5 +IN
part B pins: 1 OUT (out), 6 -IN, 7 +IN
part C pins: 8 -IN, 9 +IN, 14 OUT (out)
part D pins: 10 -IN, 11 +IN, 13 OUT (out)
part E pins: 3 V+ (power), 12 V- (power)

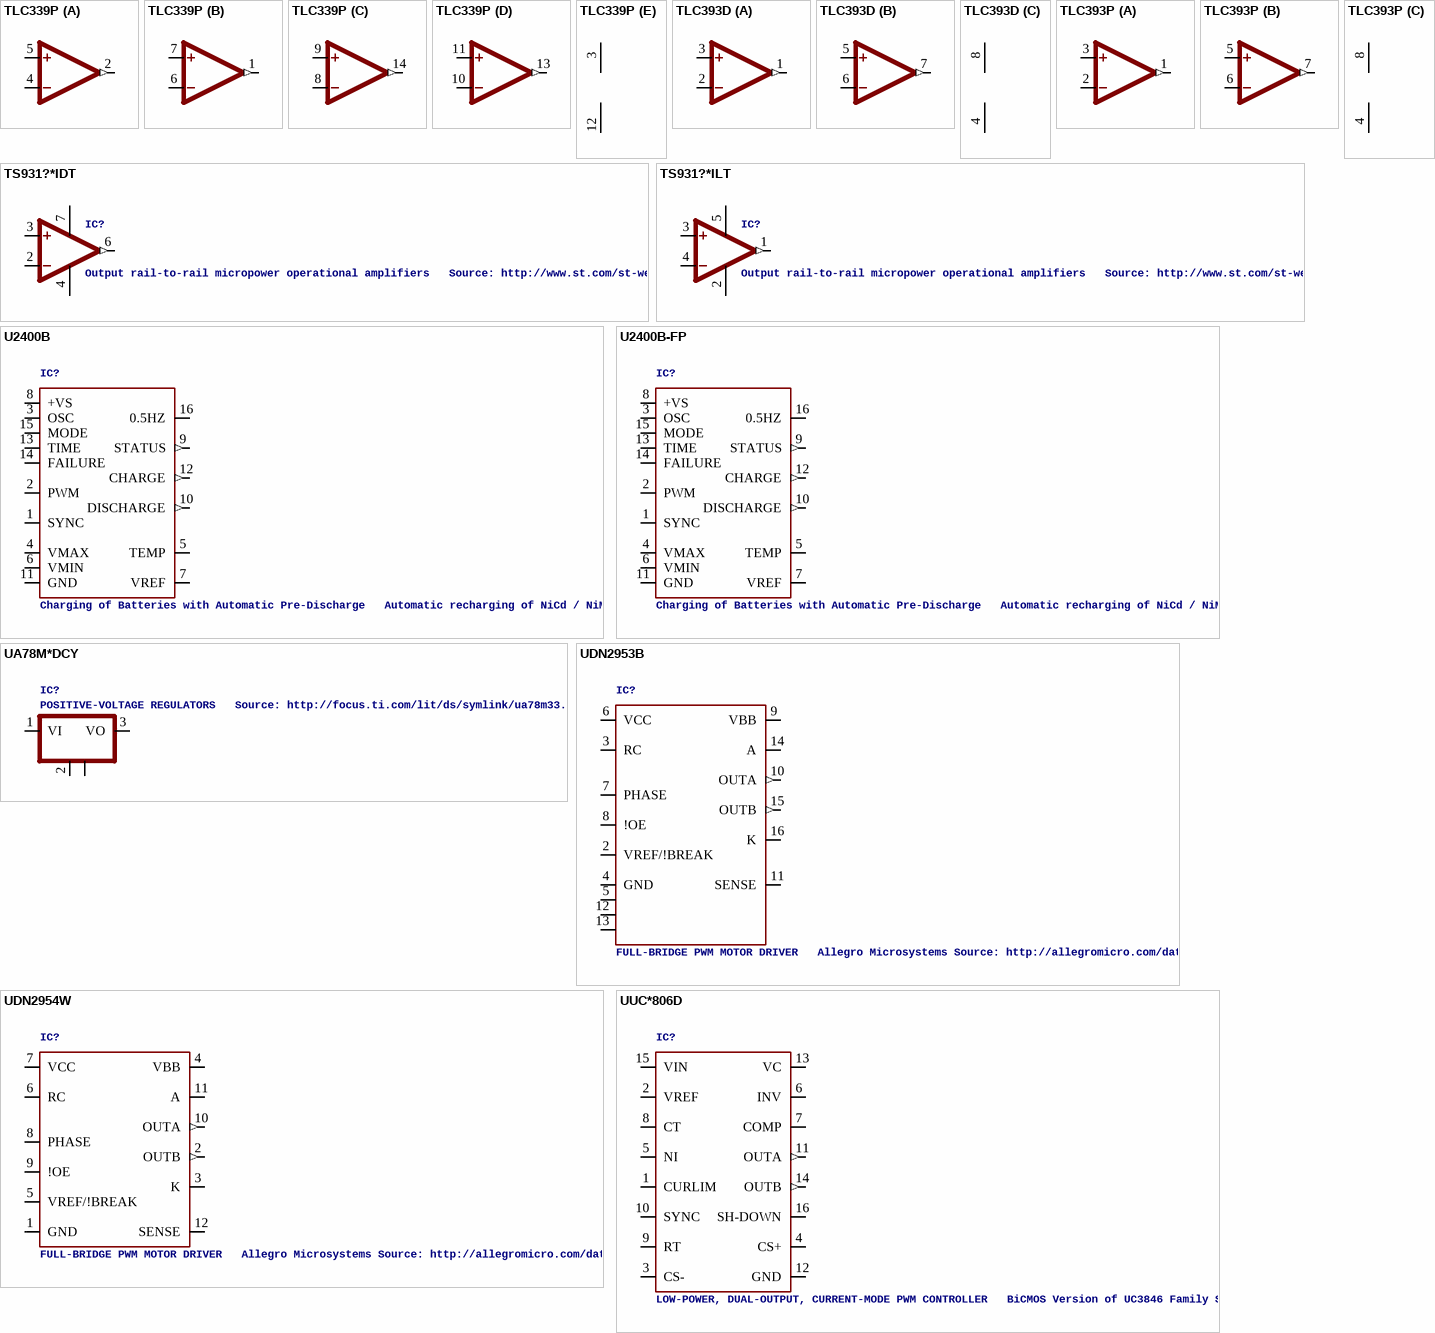
[diagram p37: symbols TLC339P to UUC*806D]

## TLC339P
designator IC?, comment COMPARATOR  (value not drawn)
footprint DIL14
part A pins: 2 OUT (out), 4 -IN, 5 +IN
part B pins: 1 OUT (out), 6 -IN, 7 +IN
part C pins: 8 -IN, 9 +IN, 14 OUT (out)
part D pins: 10 -IN, 11 +IN, 13 OUT (out)
part E pins: 3 V+ (power), 12 V- (power)

## TLC393D
designator IC?, comment COMPARATOR  (value not drawn)
footprint SO08
part A pins: 1 OUT (out), 2 -IN, 3 +IN
part B pins: 5 +IN, 6 -IN, 7 OUT (out)
part C pins: 4 V- (power), 8 V+ (power)

## TLC393P
designator IC?, comment COMPARATOR  (value not drawn)
footprint DIL08
part A pins: 1 OUT (out), 2 -IN, 3 +IN
part B pins: 5 +IN, 6 -IN, 7 OUT (out)
part C pins: 4 V- (power), 8 V+ (power)

## TS931?*IDT
designator IC?, comment Output rail-to-rail micropower operational amplifiers   Source: http://www.st.com/st-web-ui/static/active/en/resource/technical/document/datasheet/CD00001973.pdf
footprint SO08
pins: 2 -IN, 3 +IN, 4 V- (power), 6 OUT (out), 7 V+ (power)

## TS931?*ILT
designator IC?, comment Output rail-to-rail micropower operational amplifiers   Source: http://www.st.com/st-web-ui/static/active/en/resource/technical/document/datasheet/CD00001973.pdf
footprint SOT23-5
pins: 1 OUT (out), 2 V- (power), 3 +IN, 4 -IN, 5 V+ (power)

## U2400B
designator IC?, comment Charging of Batteries with Automatic Pre-Discharge   Automatic recharging of NiCd / NiMH batteries. Source: http://www.elektronikpool.de/Sheets/U2400B.PDF
footprint DIL16
pins: 1 SYNC, 2 PWM, 3 OSC, 4 VMAX, 5 TEMP, 6 VMIN, 7 VREF, 8 +VS (power), 9 STATUS (out), 10 DISCHARGE (out), 11 GND (power), 12 CHARGE (out), 13 TIME, 14 FAILURE, 15 MODE, 16 0.5HZ

## U2400B-FP
designator IC?, comment Charging of Batteries with Automatic Pre-Discharge   Automatic recharging of NiCd / NiMH batteries. Source: http://www.elektronikpool.de/Sheets/U2400B.PDF
footprint SO16L
pins: 1 SYNC, 2 PWM, 3 OSC, 4 VMAX, 5 TEMP, 6 VMIN, 7 VREF, 8 +VS (power), 9 STATUS (out), 10 DISCHARGE (out), 11 GND (power), 12 CHARGE (out), 13 TIME, 14 FAILURE, 15 MODE, 16 0.5HZ

## UA78M*DCY
designator IC?, comment POSITIVE-VOLTAGE REGULATORS   Source: http://focus.ti.com/lit/ds/symlink/ua78m33.pdf
footprint SOT223
pins: 1 VI, 2 GND, 3 VO, 4 GND@1

## UDN2953B
designator IC?, comment FULL-BRIDGE PWM MOTOR DRIVER   Allegro Microsystems Source: http://allegromicro.com/datafile/archive/2953.pdf
footprint DIL16
pins: 2 VREF/!BREAK, 3 RC, 4 GND (power), 5 GND@1 (power), 6 VCC (power), 7 PHASE, 8 !OE, 9 VBB (power), 10 OUTA (out), 11 SENSE, 12 GND@2 (power), 13 GND@3 (power), 14 A, 15 OUTB (out), 16 K